# Altium integrated library Xilinx XC7000.IntLib: 173 symbols (part 4 of 9)
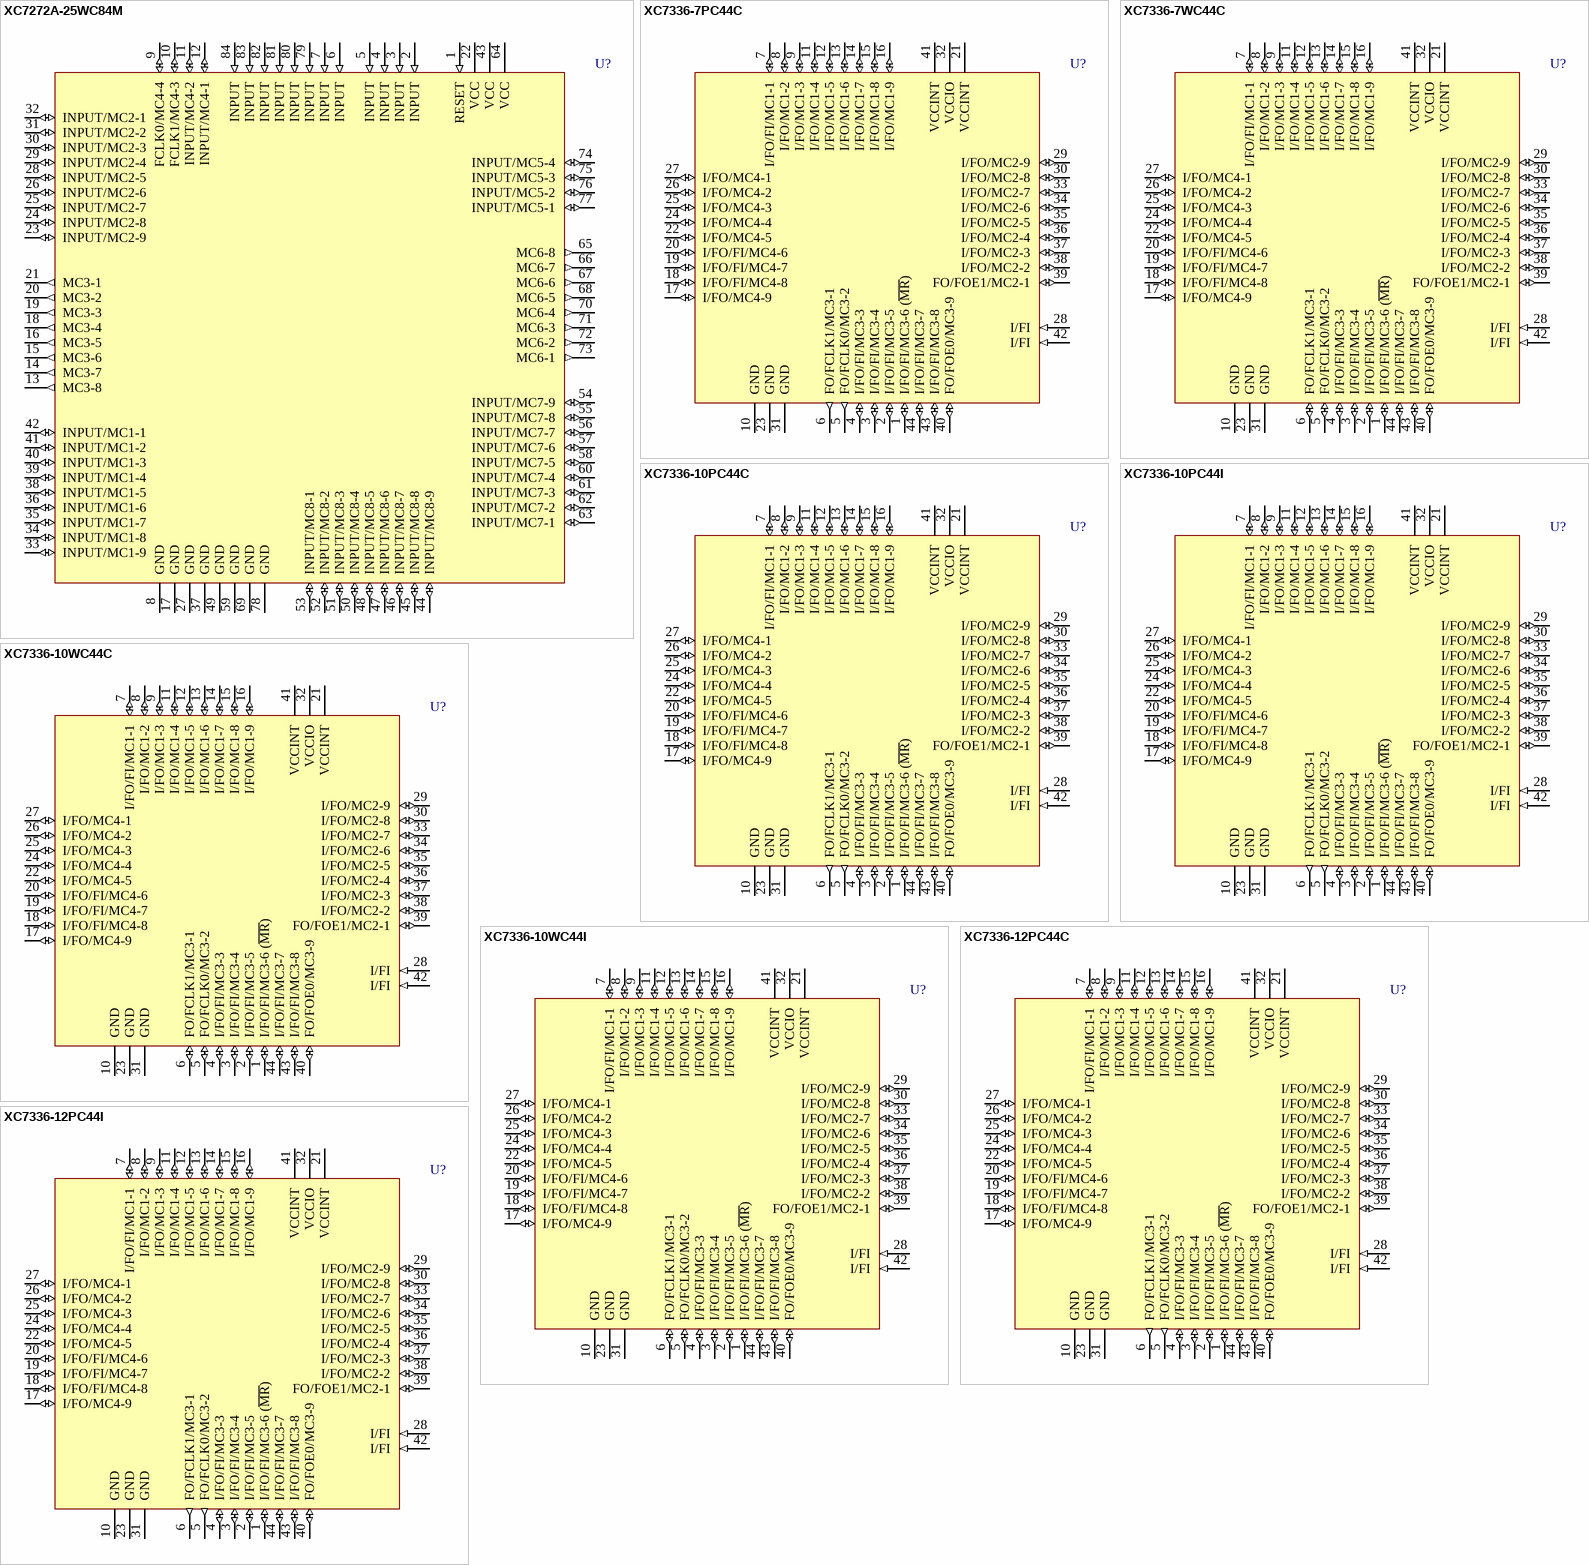
[diagram p50: symbols XC7272A-25WC84M to XC7336-12PC44I]

## XC7336-7WC44C
designator U?
36 Macrocell CMOS EPLD, with 34 I/O Pins, 44-Pin LCC, Commercial Grade; Published: 8-Jun-2000; LatestRevisionDate: 13-Apr-2006; LatestRevisionNote: IPC-7351 Footprint Added.; DatasheetVersion: 1994; PackageVersion: 1994; PackageReference: WC44; Publisher: Altium Limited; PackageDescription: 44-Pin Window Ceramic Leaded Chip Carrier (WC44); Code_IPC: PLCC-44; ComponentLink1Description: Manufacturer Link; ComponentLink1URL: http://www.xilinx.com/; ComponentLink2Description: Discontinuation Notice; ComponentLink2URL: http://direct.xilinx.com/bvdocs/notifications/pdn97008a.pdf
footprint WC44_N (Leaded Chip Carrier, 44-Leads, Body 16.4x16.4mm, Pitch 1.27mm, IPC Medium Density)
footprint WC44_L (Leaded Chip Carrier, 44-Leads, Body 16.4x16.4mm, Pitch 1.27mm, IPC High Density)
footprint WC44_M (Leaded Chip Carrier, 44-Leads, Body 16.4x16.4mm, Pitch 1.27mm, IPC Low Density)
3D model XC7336-WC44 (44-Pin Window Ceramic Leaded Chip Carrier (WC44))
pins: 1 I/FO/FI/MC3-6 (~{MR}) (io), 2 I/FO/FI/MC3-5 (io), 3 I/FO/FI/MC3-4 (io), 4 I/FO/FI/MC3-3 (io), 5 FO/FCLK0/MC3-2 (io), 6 FO/FCLK1/MC3-1 (io), 7 I/FO/FI/MC1-1 (io), 8 I/FO/MC1-2 (io), 9 I/FO/MC1-3 (io), 10 GND (power), 11 I/FO/MC1-4 (io), 12 I/FO/MC1-5 (io), 13 I/FO/MC1-6 (io), 14 I/FO/MC1-7 (io), 15 I/FO/MC1-8 (io), 16 I/FO/MC1-9 (io), 17 I/FO/MC4-9 (io), 18 I/FO/FI/MC4-8 (io), 19 I/FO/FI/MC4-7 (io), 20 I/FO/FI/MC4-6 (io), 21 VCCINT (power), 22 I/FO/MC4-5 (io), 23 GND (power), 24 I/FO/MC4-4 (io), 25 I/FO/MC4-3 (io), 26 I/FO/MC4-2 (io), 27 I/FO/MC4-1 (io), 28 I/FI (in), 29 I/FO/MC2-9 (io), 30 I/FO/MC2-8 (io), 31 GND (power), 32 VCCIO (power), 33 I/FO/MC2-7 (io), 34 I/FO/MC2-6 (io), 35 I/FO/MC2-5 (io), 36 I/FO/MC2-4 (io), 37 I/FO/MC2-3 (io), 38 I/FO/MC2-2 (io), 39 FO/FOE1/MC2-1 (io), 40 FO/FOE0/MC3-9 (io), 41 VCCINT (power), 42 I/FI (in), 43 I/FO/FI/MC3-8 (io), 44 I/FO/FI/MC3-7 (io)

## XC7336-10PC44C
designator U?
36 Macrocell CMOS EPLD, with 27 I/O Pins, 44-Pin PLCC, Commercial Grade; Published: 8-Jun-2000; LatestRevisionDate: 13-Apr-2006; LatestRevisionNote: IPC-7351 Footprint Added.; DatasheetVersion: 1994; PackageVersion: ver1.2, Jun-2004; PackageReference: PC44; Publisher: Altium Limited; PackageDescription: 44-Pin Plastic Leaded Chip Carrier (PC44); Code_JEDEC: MS-047; Code_IPC: PLCC-44; ComponentLink1Description: Manufacturer Link; ComponentLink1URL: http://www.xilinx.com/; ComponentLink2Description: Discontinuation Notice; ComponentLink2URL: http://direct.xilinx.com/bvdocs/notifications/pdn97008a.pdf
footprint PC44_N (Leaded Chip Carrier, 44-Leads, Body 16.6x16.6mm, Pitch 1.27mm, IPC Medium Density)
footprint PC44_L (Leaded Chip Carrier, 44-Leads, Body 16.6x16.6mm, Pitch 1.27mm, IPC High Density)
footprint PC44_M (Leaded Chip Carrier, 44-Leads, Body 16.6x16.6mm, Pitch 1.27mm, IPC Low Density)
3D model XC7336-PC44 (44-Pin Plastic Leaded Chip Carrier (PC44))
pins: 1 I/FO/FI/MC3-6 (~{MR}) (io), 2 I/FO/FI/MC3-5 (io), 3 I/FO/FI/MC3-4 (io), 4 I/FO/FI/MC3-3 (io), 5 FO/FCLK0/MC3-2 (out), 6 FO/FCLK1/MC3-1 (out), 7 I/FO/FI/MC1-1 (io), 8 I/FO/MC1-2 (io), 9 I/FO/MC1-3 (io), 10 GND (power), 11 I/FO/MC1-4 (io), 12 I/FO/MC1-5 (io), 13 I/FO/MC1-6 (io), 14 I/FO/MC1-7 (io), 15 I/FO/MC1-8 (io), 16 I/FO/MC1-9 (io), 17 I/FO/MC4-9 (io), 18 I/FO/FI/MC4-8 (io), 19 I/FO/FI/MC4-7 (io), 20 I/FO/FI/MC4-6 (io), 21 VCCINT (power), 22 I/FO/MC4-5 (io), 23 GND (power), 24 I/FO/MC4-4 (io), 25 I/FO/MC4-3 (io), 26 I/FO/MC4-2 (io), 27 I/FO/MC4-1 (io), 28 I/FI (in), 29 I/FO/MC2-9 (io), 30 I/FO/MC2-8 (io), 31 GND (power), 32 VCCIO (power), 33 I/FO/MC2-7 (io), 34 I/FO/MC2-6 (io), 35 I/FO/MC2-5 (io), 36 I/FO/MC2-4 (io), 37 I/FO/MC2-3 (io), 38 I/FO/MC2-2 (io), 39 FO/FOE1/MC2-1 (io), 40 FO/FOE0/MC3-9 (io), 41 VCCINT (power), 42 I/FI (in), 43 I/FO/FI/MC3-8 (io), 44 I/FO/FI/MC3-7 (io)

## XC7336-10PC44I
designator U?
36 Macrocell CMOS EPLD, with 27 I/O Pins, 44-Pin PLCC, Industrial Grade; Published: 8-Jun-2000; LatestRevisionDate: 13-Apr-2006; LatestRevisionNote: IPC-7351 Footprint Added.; DatasheetVersion: 1994; PackageVersion: ver1.2, Jun-2004; PackageReference: PC44; Publisher: Altium Limited; PackageDescription: 44-Pin Plastic Leaded Chip Carrier (PC44); Code_JEDEC: MS-047; Code_IPC: PLCC-44; ComponentLink1Description: Manufacturer Link; ComponentLink1URL: http://www.xilinx.com/; ComponentLink2Description: Discontinuation Notice; ComponentLink2URL: http://direct.xilinx.com/bvdocs/notifications/pdn97008a.pdf
footprint PC44_N (Leaded Chip Carrier, 44-Leads, Body 16.6x16.6mm, Pitch 1.27mm, IPC Medium Density)
footprint PC44_L (Leaded Chip Carrier, 44-Leads, Body 16.6x16.6mm, Pitch 1.27mm, IPC High Density)
footprint PC44_M (Leaded Chip Carrier, 44-Leads, Body 16.6x16.6mm, Pitch 1.27mm, IPC Low Density)
3D model XC7336-PC44 (44-Pin Plastic Leaded Chip Carrier (PC44))
pins: 1 I/FO/FI/MC3-6 (~{MR}) (io), 2 I/FO/FI/MC3-5 (io), 3 I/FO/FI/MC3-4 (io), 4 I/FO/FI/MC3-3 (io), 5 FO/FCLK0/MC3-2 (out), 6 FO/FCLK1/MC3-1 (out), 7 I/FO/FI/MC1-1 (io), 8 I/FO/MC1-2 (io), 9 I/FO/MC1-3 (io), 10 GND (power), 11 I/FO/MC1-4 (io), 12 I/FO/MC1-5 (io), 13 I/FO/MC1-6 (io), 14 I/FO/MC1-7 (io), 15 I/FO/MC1-8 (io), 16 I/FO/MC1-9 (io), 17 I/FO/MC4-9 (io), 18 I/FO/FI/MC4-8 (io), 19 I/FO/FI/MC4-7 (io), 20 I/FO/FI/MC4-6 (io), 21 VCCINT (power), 22 I/FO/MC4-5 (io), 23 GND (power), 24 I/FO/MC4-4 (io), 25 I/FO/MC4-3 (io), 26 I/FO/MC4-2 (io), 27 I/FO/MC4-1 (io), 28 I/FI (in), 29 I/FO/MC2-9 (io), 30 I/FO/MC2-8 (io), 31 GND (power), 32 VCCIO (power), 33 I/FO/MC2-7 (io), 34 I/FO/MC2-6 (io), 35 I/FO/MC2-5 (io), 36 I/FO/MC2-4 (io), 37 I/FO/MC2-3 (io), 38 I/FO/MC2-2 (io), 39 FO/FOE1/MC2-1 (io), 40 FO/FOE0/MC3-9 (io), 41 VCCINT (power), 42 I/FI (in), 43 I/FO/FI/MC3-8 (io), 44 I/FO/FI/MC3-7 (io)

## XC7336-10WC44C
designator U?
36 Macrocell CMOS EPLD, with 34 I/O Pins, 44-Pin LCC, Commercial Grade; Published: 8-Jun-2000; LatestRevisionDate: 13-Apr-2006; LatestRevisionNote: IPC-7351 Footprint Added.; DatasheetVersion: 1994; PackageVersion: 1994; PackageReference: WC44; Publisher: Altium Limited; PackageDescription: 44-Pin Window Ceramic Leaded Chip Carrier (WC44); Code_IPC: PLCC-44; ComponentLink1Description: Manufacturer Link; ComponentLink1URL: http://www.xilinx.com/; ComponentLink2Description: Discontinuation Notice; ComponentLink2URL: http://direct.xilinx.com/bvdocs/notifications/pdn97008a.pdf
footprint WC44_N (Leaded Chip Carrier, 44-Leads, Body 16.4x16.4mm, Pitch 1.27mm, IPC Medium Density)
footprint WC44_L (Leaded Chip Carrier, 44-Leads, Body 16.4x16.4mm, Pitch 1.27mm, IPC High Density)
footprint WC44_M (Leaded Chip Carrier, 44-Leads, Body 16.4x16.4mm, Pitch 1.27mm, IPC Low Density)
3D model XC7336-WC44 (44-Pin Window Ceramic Leaded Chip Carrier (WC44))
pins: 1 I/FO/FI/MC3-6 (~{MR}) (io), 2 I/FO/FI/MC3-5 (io), 3 I/FO/FI/MC3-4 (io), 4 I/FO/FI/MC3-3 (io), 5 FO/FCLK0/MC3-2 (io), 6 FO/FCLK1/MC3-1 (io), 7 I/FO/FI/MC1-1 (io), 8 I/FO/MC1-2 (io), 9 I/FO/MC1-3 (io), 10 GND (power), 11 I/FO/MC1-4 (io), 12 I/FO/MC1-5 (io), 13 I/FO/MC1-6 (io), 14 I/FO/MC1-7 (io), 15 I/FO/MC1-8 (io), 16 I/FO/MC1-9 (io), 17 I/FO/MC4-9 (io), 18 I/FO/FI/MC4-8 (io), 19 I/FO/FI/MC4-7 (io), 20 I/FO/FI/MC4-6 (io), 21 VCCINT (power), 22 I/FO/MC4-5 (io), 23 GND (power), 24 I/FO/MC4-4 (io), 25 I/FO/MC4-3 (io), 26 I/FO/MC4-2 (io), 27 I/FO/MC4-1 (io), 28 I/FI (in), 29 I/FO/MC2-9 (io), 30 I/FO/MC2-8 (io), 31 GND (power), 32 VCCIO (power), 33 I/FO/MC2-7 (io), 34 I/FO/MC2-6 (io), 35 I/FO/MC2-5 (io), 36 I/FO/MC2-4 (io), 37 I/FO/MC2-3 (io), 38 I/FO/MC2-2 (io), 39 FO/FOE1/MC2-1 (io), 40 FO/FOE0/MC3-9 (io), 41 VCCINT (power), 42 I/FI (in), 43 I/FO/FI/MC3-8 (io), 44 I/FO/FI/MC3-7 (io)

## XC7336-10WC44I
designator U?
36 Macrocell CMOS EPLD, with 34 I/O Pins, 44-Pin LCC, Industrial Grade; Published: 8-Jun-2000; LatestRevisionDate: 13-Apr-2006; LatestRevisionNote: IPC-7351 Footprint Added.; DatasheetVersion: 1994; PackageVersion: 1994; PackageReference: WC44; Publisher: Altium Limited; PackageDescription: 44-Pin Window Ceramic Leaded Chip Carrier (WC44); Code_IPC: PLCC-44; ComponentLink1Description: Manufacturer Link; ComponentLink1URL: http://www.xilinx.com/; ComponentLink2Description: Discontinuation Notice; ComponentLink2URL: http://direct.xilinx.com/bvdocs/notifications/pdn97008a.pdf
footprint WC44_N (Leaded Chip Carrier, 44-Leads, Body 16.4x16.4mm, Pitch 1.27mm, IPC Medium Density)
footprint WC44_L (Leaded Chip Carrier, 44-Leads, Body 16.4x16.4mm, Pitch 1.27mm, IPC High Density)
footprint WC44_M (Leaded Chip Carrier, 44-Leads, Body 16.4x16.4mm, Pitch 1.27mm, IPC Low Density)
3D model XC7336-WC44 (44-Pin Window Ceramic Leaded Chip Carrier (WC44))
pins: 1 I/FO/FI/MC3-6 (~{MR}) (io), 2 I/FO/FI/MC3-5 (io), 3 I/FO/FI/MC3-4 (io), 4 I/FO/FI/MC3-3 (io), 5 FO/FCLK0/MC3-2 (io), 6 FO/FCLK1/MC3-1 (io), 7 I/FO/FI/MC1-1 (io), 8 I/FO/MC1-2 (io), 9 I/FO/MC1-3 (io), 10 GND (power), 11 I/FO/MC1-4 (io), 12 I/FO/MC1-5 (io), 13 I/FO/MC1-6 (io), 14 I/FO/MC1-7 (io), 15 I/FO/MC1-8 (io), 16 I/FO/MC1-9 (io), 17 I/FO/MC4-9 (io), 18 I/FO/FI/MC4-8 (io), 19 I/FO/FI/MC4-7 (io), 20 I/FO/FI/MC4-6 (io), 21 VCCINT (power), 22 I/FO/MC4-5 (io), 23 GND (power), 24 I/FO/MC4-4 (io), 25 I/FO/MC4-3 (io), 26 I/FO/MC4-2 (io), 27 I/FO/MC4-1 (io), 28 I/FI (in), 29 I/FO/MC2-9 (io), 30 I/FO/MC2-8 (io), 31 GND (power), 32 VCCIO (power), 33 I/FO/MC2-7 (io), 34 I/FO/MC2-6 (io), 35 I/FO/MC2-5 (io), 36 I/FO/MC2-4 (io), 37 I/FO/MC2-3 (io), 38 I/FO/MC2-2 (io), 39 FO/FOE1/MC2-1 (io), 40 FO/FOE0/MC3-9 (io), 41 VCCINT (power), 42 I/FI (in), 43 I/FO/FI/MC3-8 (io), 44 I/FO/FI/MC3-7 (io)

## XC7336-12PC44C
designator U?
36 Macrocell CMOS EPLD, with 27 I/O Pins, 44-Pin PLCC, Commercial Grade; Published: 8-Jun-2000; LatestRevisionDate: 13-Apr-2006; LatestRevisionNote: IPC-7351 Footprint Added.; DatasheetVersion: 1994; PackageVersion: ver1.2, Jun-2004; PackageReference: PC44; Publisher: Altium Limited; PackageDescription: 44-Pin Plastic Leaded Chip Carrier (PC44); Code_JEDEC: MS-047; Code_IPC: PLCC-44; ComponentLink1Description: Manufacturer Link; ComponentLink1URL: http://www.xilinx.com/; ComponentLink2Description: Discontinuation Notice; ComponentLink2URL: http://direct.xilinx.com/bvdocs/notifications/pdn97008a.pdf
footprint PC44_N (Leaded Chip Carrier, 44-Leads, Body 16.6x16.6mm, Pitch 1.27mm, IPC Medium Density)
footprint PC44_L (Leaded Chip Carrier, 44-Leads, Body 16.6x16.6mm, Pitch 1.27mm, IPC High Density)
footprint PC44_M (Leaded Chip Carrier, 44-Leads, Body 16.6x16.6mm, Pitch 1.27mm, IPC Low Density)
3D model XC7336-PC44 (44-Pin Plastic Leaded Chip Carrier (PC44))
pins: 1 I/FO/FI/MC3-6 (~{MR}) (io), 2 I/FO/FI/MC3-5 (io), 3 I/FO/FI/MC3-4 (io), 4 I/FO/FI/MC3-3 (io), 5 FO/FCLK0/MC3-2 (out), 6 FO/FCLK1/MC3-1 (out), 7 I/FO/FI/MC1-1 (io), 8 I/FO/MC1-2 (io), 9 I/FO/MC1-3 (io), 10 GND (power), 11 I/FO/MC1-4 (io), 12 I/FO/MC1-5 (io), 13 I/FO/MC1-6 (io), 14 I/FO/MC1-7 (io), 15 I/FO/MC1-8 (io), 16 I/FO/MC1-9 (io), 17 I/FO/MC4-9 (io), 18 I/FO/FI/MC4-8 (io), 19 I/FO/FI/MC4-7 (io), 20 I/FO/FI/MC4-6 (io), 21 VCCINT (power), 22 I/FO/MC4-5 (io), 23 GND (power), 24 I/FO/MC4-4 (io), 25 I/FO/MC4-3 (io), 26 I/FO/MC4-2 (io), 27 I/FO/MC4-1 (io), 28 I/FI (in), 29 I/FO/MC2-9 (io), 30 I/FO/MC2-8 (io), 31 GND (power), 32 VCCIO (power), 33 I/FO/MC2-7 (io), 34 I/FO/MC2-6 (io), 35 I/FO/MC2-5 (io), 36 I/FO/MC2-4 (io), 37 I/FO/MC2-3 (io), 38 I/FO/MC2-2 (io), 39 FO/FOE1/MC2-1 (io), 40 FO/FOE0/MC3-9 (io), 41 VCCINT (power), 42 I/FI (in), 43 I/FO/FI/MC3-8 (io), 44 I/FO/FI/MC3-7 (io)

## XC7336-12PC44I
designator U?
36 Macrocell CMOS EPLD, with 27 I/O Pins, 44-Pin PLCC, Industrial Grade; Published: 8-Jun-2000; LatestRevisionDate: 13-Apr-2006; LatestRevisionNote: IPC-7351 Footprint Added.; DatasheetVersion: 1994; PackageVersion: ver1.2, Jun-2004; PackageReference: PC44; Publisher: Altium Limited; PackageDescription: 44-Pin Plastic Leaded Chip Carrier (PC44); Code_JEDEC: MS-047; Code_IPC: PLCC-44; ComponentLink1Description: Manufacturer Link; ComponentLink1URL: http://www.xilinx.com/; ComponentLink2Description: Discontinuation Notice; ComponentLink2URL: http://direct.xilinx.com/bvdocs/notifications/pdn97008a.pdf
footprint PC44_N (Leaded Chip Carrier, 44-Leads, Body 16.6x16.6mm, Pitch 1.27mm, IPC Medium Density)
footprint PC44_L (Leaded Chip Carrier, 44-Leads, Body 16.6x16.6mm, Pitch 1.27mm, IPC High Density)
footprint PC44_M (Leaded Chip Carrier, 44-Leads, Body 16.6x16.6mm, Pitch 1.27mm, IPC Low Density)
3D model XC7336-PC44 (44-Pin Plastic Leaded Chip Carrier (PC44))
pins: 1 I/FO/FI/MC3-6 (~{MR}) (io), 2 I/FO/FI/MC3-5 (io), 3 I/FO/FI/MC3-4 (io), 4 I/FO/FI/MC3-3 (io), 5 FO/FCLK0/MC3-2 (out), 6 FO/FCLK1/MC3-1 (out), 7 I/FO/FI/MC1-1 (io), 8 I/FO/MC1-2 (io), 9 I/FO/MC1-3 (io), 10 GND (power), 11 I/FO/MC1-4 (io), 12 I/FO/MC1-5 (io), 13 I/FO/MC1-6 (io), 14 I/FO/MC1-7 (io), 15 I/FO/MC1-8 (io), 16 I/FO/MC1-9 (io), 17 I/FO/MC4-9 (io), 18 I/FO/FI/MC4-8 (io), 19 I/FO/FI/MC4-7 (io), 20 I/FO/FI/MC4-6 (io), 21 VCCINT (power), 22 I/FO/MC4-5 (io), 23 GND (power), 24 I/FO/MC4-4 (io), 25 I/FO/MC4-3 (io), 26 I/FO/MC4-2 (io), 27 I/FO/MC4-1 (io), 28 I/FI (in), 29 I/FO/MC2-9 (io), 30 I/FO/MC2-8 (io), 31 GND (power), 32 VCCIO (power), 33 I/FO/MC2-7 (io), 34 I/FO/MC2-6 (io), 35 I/FO/MC2-5 (io), 36 I/FO/MC2-4 (io), 37 I/FO/MC2-3 (io), 38 I/FO/MC2-2 (io), 39 FO/FOE1/MC2-1 (io), 40 FO/FOE0/MC3-9 (io), 41 VCCINT (power), 42 I/FI (in), 43 I/FO/FI/MC3-8 (io), 44 I/FO/FI/MC3-7 (io)

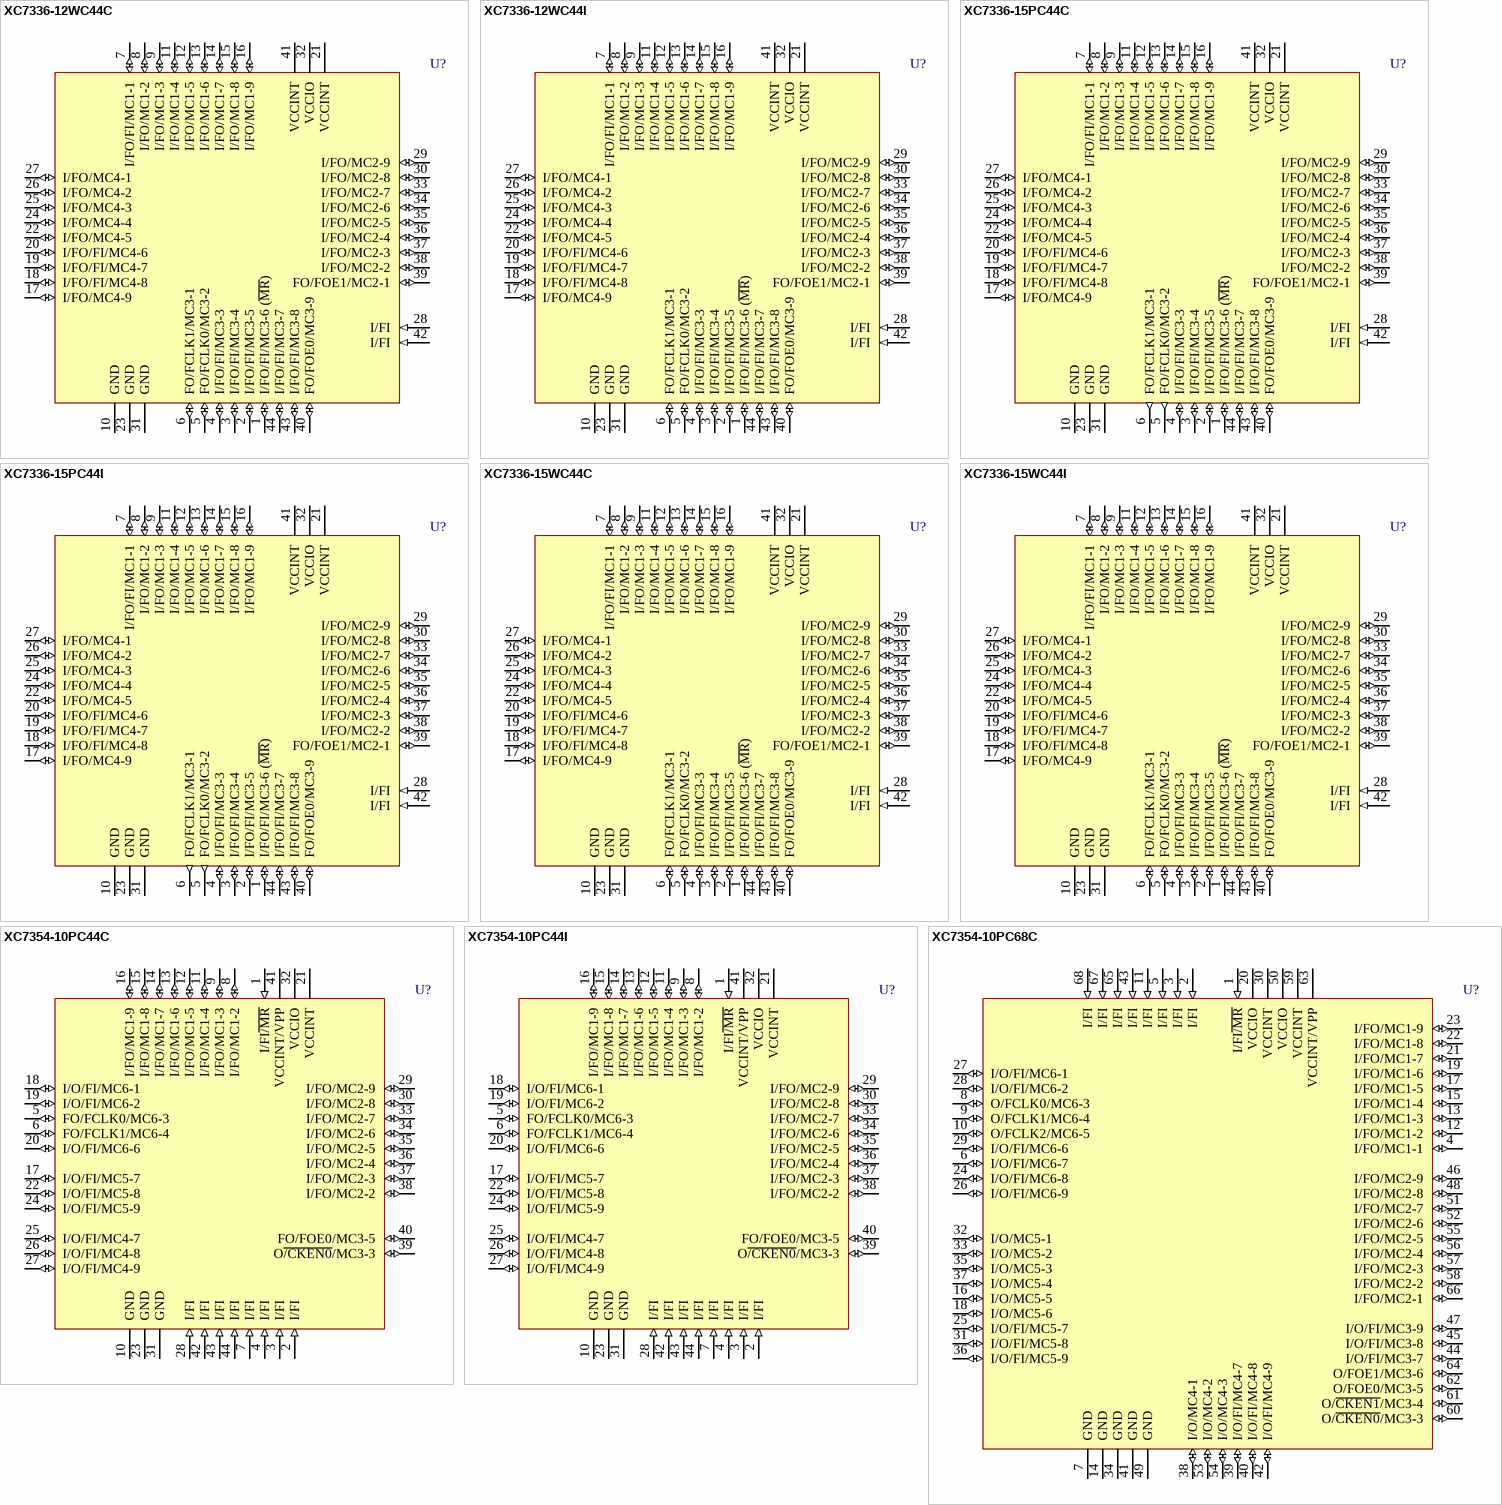
[diagram p15: symbols XC7336-12WC44C to XC7354-10PC68C]

## XC7336-12WC44C
designator U?
36 Macrocell CMOS EPLD, with 34 I/O Pins, 44-Pin LCC, Commercial Grade; Published: 8-Jun-2000; LatestRevisionDate: 13-Apr-2006; LatestRevisionNote: IPC-7351 Footprint Added.; DatasheetVersion: 1994; PackageVersion: 1994; PackageReference: WC44; Publisher: Altium Limited; PackageDescription: 44-Pin Window Ceramic Leaded Chip Carrier (WC44); Code_IPC: PLCC-44; ComponentLink1Description: Manufacturer Link; ComponentLink1URL: http://www.xilinx.com/; ComponentLink2Description: Discontinuation Notice; ComponentLink2URL: http://direct.xilinx.com/bvdocs/notifications/pdn97008a.pdf
footprint WC44_N (Leaded Chip Carrier, 44-Leads, Body 16.4x16.4mm, Pitch 1.27mm, IPC Medium Density)
footprint WC44_L (Leaded Chip Carrier, 44-Leads, Body 16.4x16.4mm, Pitch 1.27mm, IPC High Density)
footprint WC44_M (Leaded Chip Carrier, 44-Leads, Body 16.4x16.4mm, Pitch 1.27mm, IPC Low Density)
3D model XC7336-WC44 (44-Pin Window Ceramic Leaded Chip Carrier (WC44))
pins: 1 I/FO/FI/MC3-6 (~{MR}) (io), 2 I/FO/FI/MC3-5 (io), 3 I/FO/FI/MC3-4 (io), 4 I/FO/FI/MC3-3 (io), 5 FO/FCLK0/MC3-2 (io), 6 FO/FCLK1/MC3-1 (io), 7 I/FO/FI/MC1-1 (io), 8 I/FO/MC1-2 (io), 9 I/FO/MC1-3 (io), 10 GND (power), 11 I/FO/MC1-4 (io), 12 I/FO/MC1-5 (io), 13 I/FO/MC1-6 (io), 14 I/FO/MC1-7 (io), 15 I/FO/MC1-8 (io), 16 I/FO/MC1-9 (io), 17 I/FO/MC4-9 (io), 18 I/FO/FI/MC4-8 (io), 19 I/FO/FI/MC4-7 (io), 20 I/FO/FI/MC4-6 (io), 21 VCCINT (power), 22 I/FO/MC4-5 (io), 23 GND (power), 24 I/FO/MC4-4 (io), 25 I/FO/MC4-3 (io), 26 I/FO/MC4-2 (io), 27 I/FO/MC4-1 (io), 28 I/FI (in), 29 I/FO/MC2-9 (io), 30 I/FO/MC2-8 (io), 31 GND (power), 32 VCCIO (power), 33 I/FO/MC2-7 (io), 34 I/FO/MC2-6 (io), 35 I/FO/MC2-5 (io), 36 I/FO/MC2-4 (io), 37 I/FO/MC2-3 (io), 38 I/FO/MC2-2 (io), 39 FO/FOE1/MC2-1 (io), 40 FO/FOE0/MC3-9 (io), 41 VCCINT (power), 42 I/FI (in), 43 I/FO/FI/MC3-8 (io), 44 I/FO/FI/MC3-7 (io)

## XC7336-12WC44I
designator U?
36 Macrocell CMOS EPLD, with 34 I/O Pins, 44-Pin LCC, Industrial Grade; Published: 8-Jun-2000; LatestRevisionDate: 13-Apr-2006; LatestRevisionNote: IPC-7351 Footprint Added.; DatasheetVersion: 1994; PackageVersion: 1994; PackageReference: WC44; Publisher: Altium Limited; PackageDescription: 44-Pin Window Ceramic Leaded Chip Carrier (WC44); Code_IPC: PLCC-44; ComponentLink1Description: Manufacturer Link; ComponentLink1URL: http://www.xilinx.com/; ComponentLink2Description: Discontinuation Notice; ComponentLink2URL: http://direct.xilinx.com/bvdocs/notifications/pdn97008a.pdf
footprint WC44_N (Leaded Chip Carrier, 44-Leads, Body 16.4x16.4mm, Pitch 1.27mm, IPC Medium Density)
footprint WC44_L (Leaded Chip Carrier, 44-Leads, Body 16.4x16.4mm, Pitch 1.27mm, IPC High Density)
footprint WC44_M (Leaded Chip Carrier, 44-Leads, Body 16.4x16.4mm, Pitch 1.27mm, IPC Low Density)
3D model XC7336-WC44 (44-Pin Window Ceramic Leaded Chip Carrier (WC44))
pins: 1 I/FO/FI/MC3-6 (~{MR}) (io), 2 I/FO/FI/MC3-5 (io), 3 I/FO/FI/MC3-4 (io), 4 I/FO/FI/MC3-3 (io), 5 FO/FCLK0/MC3-2 (io), 6 FO/FCLK1/MC3-1 (io), 7 I/FO/FI/MC1-1 (io), 8 I/FO/MC1-2 (io), 9 I/FO/MC1-3 (io), 10 GND (power), 11 I/FO/MC1-4 (io), 12 I/FO/MC1-5 (io), 13 I/FO/MC1-6 (io), 14 I/FO/MC1-7 (io), 15 I/FO/MC1-8 (io), 16 I/FO/MC1-9 (io), 17 I/FO/MC4-9 (io), 18 I/FO/FI/MC4-8 (io), 19 I/FO/FI/MC4-7 (io), 20 I/FO/FI/MC4-6 (io), 21 VCCINT (power), 22 I/FO/MC4-5 (io), 23 GND (power), 24 I/FO/MC4-4 (io), 25 I/FO/MC4-3 (io), 26 I/FO/MC4-2 (io), 27 I/FO/MC4-1 (io), 28 I/FI (in), 29 I/FO/MC2-9 (io), 30 I/FO/MC2-8 (io), 31 GND (power), 32 VCCIO (power), 33 I/FO/MC2-7 (io), 34 I/FO/MC2-6 (io), 35 I/FO/MC2-5 (io), 36 I/FO/MC2-4 (io), 37 I/FO/MC2-3 (io), 38 I/FO/MC2-2 (io), 39 FO/FOE1/MC2-1 (io), 40 FO/FOE0/MC3-9 (io), 41 VCCINT (power), 42 I/FI (in), 43 I/FO/FI/MC3-8 (io), 44 I/FO/FI/MC3-7 (io)

## XC7336-15PC44C
designator U?
36 Macrocell CMOS EPLD, with 27 I/O Pins, 44-Pin PLCC, Commercial Grade; Published: 8-Jun-2000; LatestRevisionDate: 13-Apr-2006; LatestRevisionNote: IPC-7351 Footprint Added.; DatasheetVersion: 1994; PackageVersion: ver1.2, Jun-2004; PackageReference: PC44; Publisher: Altium Limited; PackageDescription: 44-Pin Plastic Leaded Chip Carrier (PC44); Code_JEDEC: MS-047; Code_IPC: PLCC-44; ComponentLink1Description: Manufacturer Link; ComponentLink1URL: http://www.xilinx.com/; ComponentLink2Description: Discontinuation Notice; ComponentLink2URL: http://direct.xilinx.com/bvdocs/notifications/pdn97008a.pdf
footprint PC44_N (Leaded Chip Carrier, 44-Leads, Body 16.6x16.6mm, Pitch 1.27mm, IPC Medium Density)
footprint PC44_L (Leaded Chip Carrier, 44-Leads, Body 16.6x16.6mm, Pitch 1.27mm, IPC High Density)
footprint PC44_M (Leaded Chip Carrier, 44-Leads, Body 16.6x16.6mm, Pitch 1.27mm, IPC Low Density)
3D model XC7336-PC44 (44-Pin Plastic Leaded Chip Carrier (PC44))
pins: 1 I/FO/FI/MC3-6 (~{MR}) (io), 2 I/FO/FI/MC3-5 (io), 3 I/FO/FI/MC3-4 (io), 4 I/FO/FI/MC3-3 (io), 5 FO/FCLK0/MC3-2 (out), 6 FO/FCLK1/MC3-1 (out), 7 I/FO/FI/MC1-1 (io), 8 I/FO/MC1-2 (io), 9 I/FO/MC1-3 (io), 10 GND (power), 11 I/FO/MC1-4 (io), 12 I/FO/MC1-5 (io), 13 I/FO/MC1-6 (io), 14 I/FO/MC1-7 (io), 15 I/FO/MC1-8 (io), 16 I/FO/MC1-9 (io), 17 I/FO/MC4-9 (io), 18 I/FO/FI/MC4-8 (io), 19 I/FO/FI/MC4-7 (io), 20 I/FO/FI/MC4-6 (io), 21 VCCINT (power), 22 I/FO/MC4-5 (io), 23 GND (power), 24 I/FO/MC4-4 (io), 25 I/FO/MC4-3 (io), 26 I/FO/MC4-2 (io), 27 I/FO/MC4-1 (io), 28 I/FI (in), 29 I/FO/MC2-9 (io), 30 I/FO/MC2-8 (io), 31 GND (power), 32 VCCIO (power), 33 I/FO/MC2-7 (io), 34 I/FO/MC2-6 (io), 35 I/FO/MC2-5 (io), 36 I/FO/MC2-4 (io), 37 I/FO/MC2-3 (io), 38 I/FO/MC2-2 (io), 39 FO/FOE1/MC2-1 (io), 40 FO/FOE0/MC3-9 (io), 41 VCCINT (power), 42 I/FI (in), 43 I/FO/FI/MC3-8 (io), 44 I/FO/FI/MC3-7 (io)

## XC7336-15PC44I
designator U?
36 Macrocell CMOS EPLD, with 27 I/O Pins, 44-Pin PLCC, Industrial Grade; Published: 8-Jun-2000; LatestRevisionDate: 13-Apr-2006; LatestRevisionNote: IPC-7351 Footprint Added.; DatasheetVersion: 1994; PackageVersion: ver1.2, Jun-2004; PackageReference: PC44; Publisher: Altium Limited; PackageDescription: 44-Pin Plastic Leaded Chip Carrier (PC44); Code_JEDEC: MS-047; Code_IPC: PLCC-44; ComponentLink1Description: Manufacturer Link; ComponentLink1URL: http://www.xilinx.com/; ComponentLink2Description: Discontinuation Notice; ComponentLink2URL: http://direct.xilinx.com/bvdocs/notifications/pdn97008a.pdf
footprint PC44_N (Leaded Chip Carrier, 44-Leads, Body 16.6x16.6mm, Pitch 1.27mm, IPC Medium Density)
footprint PC44_L (Leaded Chip Carrier, 44-Leads, Body 16.6x16.6mm, Pitch 1.27mm, IPC High Density)
footprint PC44_M (Leaded Chip Carrier, 44-Leads, Body 16.6x16.6mm, Pitch 1.27mm, IPC Low Density)
3D model XC7336-PC44 (44-Pin Plastic Leaded Chip Carrier (PC44))
pins: 1 I/FO/FI/MC3-6 (~{MR}) (io), 2 I/FO/FI/MC3-5 (io), 3 I/FO/FI/MC3-4 (io), 4 I/FO/FI/MC3-3 (io), 5 FO/FCLK0/MC3-2 (out), 6 FO/FCLK1/MC3-1 (out), 7 I/FO/FI/MC1-1 (io), 8 I/FO/MC1-2 (io), 9 I/FO/MC1-3 (io), 10 GND (power), 11 I/FO/MC1-4 (io), 12 I/FO/MC1-5 (io), 13 I/FO/MC1-6 (io), 14 I/FO/MC1-7 (io), 15 I/FO/MC1-8 (io), 16 I/FO/MC1-9 (io), 17 I/FO/MC4-9 (io), 18 I/FO/FI/MC4-8 (io), 19 I/FO/FI/MC4-7 (io), 20 I/FO/FI/MC4-6 (io), 21 VCCINT (power), 22 I/FO/MC4-5 (io), 23 GND (power), 24 I/FO/MC4-4 (io), 25 I/FO/MC4-3 (io), 26 I/FO/MC4-2 (io), 27 I/FO/MC4-1 (io), 28 I/FI (in), 29 I/FO/MC2-9 (io), 30 I/FO/MC2-8 (io), 31 GND (power), 32 VCCIO (power), 33 I/FO/MC2-7 (io), 34 I/FO/MC2-6 (io), 35 I/FO/MC2-5 (io), 36 I/FO/MC2-4 (io), 37 I/FO/MC2-3 (io), 38 I/FO/MC2-2 (io), 39 FO/FOE1/MC2-1 (io), 40 FO/FOE0/MC3-9 (io), 41 VCCINT (power), 42 I/FI (in), 43 I/FO/FI/MC3-8 (io), 44 I/FO/FI/MC3-7 (io)

## XC7336-15WC44C
designator U?
36 Macrocell CMOS EPLD, with 34 I/O Pins, 44-Pin LCC, Commercial Grade; Published: 8-Jun-2000; LatestRevisionDate: 13-Apr-2006; LatestRevisionNote: IPC-7351 Footprint Added.; DatasheetVersion: 1994; PackageVersion: 1994; PackageReference: WC44; Publisher: Altium Limited; PackageDescription: 44-Pin Window Ceramic Leaded Chip Carrier (WC44); Code_IPC: PLCC-44; ComponentLink1Description: Manufacturer Link; ComponentLink1URL: http://www.xilinx.com/; ComponentLink2Description: Discontinuation Notice; ComponentLink2URL: http://direct.xilinx.com/bvdocs/notifications/pdn97008a.pdf
footprint WC44_N (Leaded Chip Carrier, 44-Leads, Body 16.4x16.4mm, Pitch 1.27mm, IPC Medium Density)
footprint WC44_L (Leaded Chip Carrier, 44-Leads, Body 16.4x16.4mm, Pitch 1.27mm, IPC High Density)
footprint WC44_M (Leaded Chip Carrier, 44-Leads, Body 16.4x16.4mm, Pitch 1.27mm, IPC Low Density)
3D model XC7336-WC44 (44-Pin Window Ceramic Leaded Chip Carrier (WC44))
pins: 1 I/FO/FI/MC3-6 (~{MR}) (io), 2 I/FO/FI/MC3-5 (io), 3 I/FO/FI/MC3-4 (io), 4 I/FO/FI/MC3-3 (io), 5 FO/FCLK0/MC3-2 (io), 6 FO/FCLK1/MC3-1 (io), 7 I/FO/FI/MC1-1 (io), 8 I/FO/MC1-2 (io), 9 I/FO/MC1-3 (io), 10 GND (power), 11 I/FO/MC1-4 (io), 12 I/FO/MC1-5 (io), 13 I/FO/MC1-6 (io), 14 I/FO/MC1-7 (io), 15 I/FO/MC1-8 (io), 16 I/FO/MC1-9 (io), 17 I/FO/MC4-9 (io), 18 I/FO/FI/MC4-8 (io), 19 I/FO/FI/MC4-7 (io), 20 I/FO/FI/MC4-6 (io), 21 VCCINT (power), 22 I/FO/MC4-5 (io), 23 GND (power), 24 I/FO/MC4-4 (io), 25 I/FO/MC4-3 (io), 26 I/FO/MC4-2 (io), 27 I/FO/MC4-1 (io), 28 I/FI (in), 29 I/FO/MC2-9 (io), 30 I/FO/MC2-8 (io), 31 GND (power), 32 VCCIO (power), 33 I/FO/MC2-7 (io), 34 I/FO/MC2-6 (io), 35 I/FO/MC2-5 (io), 36 I/FO/MC2-4 (io), 37 I/FO/MC2-3 (io), 38 I/FO/MC2-2 (io), 39 FO/FOE1/MC2-1 (io), 40 FO/FOE0/MC3-9 (io), 41 VCCINT (power), 42 I/FI (in), 43 I/FO/FI/MC3-8 (io), 44 I/FO/FI/MC3-7 (io)

## XC7336-15WC44I
designator U?
36 Macrocell CMOS EPLD, with 34 I/O Pins, 44-Pin LCC, Industrial Grade; Published: 8-Jun-2000; LatestRevisionDate: 13-Apr-2006; LatestRevisionNote: IPC-7351 Footprint Added.; DatasheetVersion: 1994; PackageVersion: 1994; PackageReference: WC44; Publisher: Altium Limited; PackageDescription: 44-Pin Window Ceramic Leaded Chip Carrier (WC44); Code_IPC: PLCC-44; ComponentLink1Description: Manufacturer Link; ComponentLink1URL: http://www.xilinx.com/; ComponentLink2Description: Discontinuation Notice; ComponentLink2URL: http://direct.xilinx.com/bvdocs/notifications/pdn97008a.pdf
footprint WC44_N (Leaded Chip Carrier, 44-Leads, Body 16.4x16.4mm, Pitch 1.27mm, IPC Medium Density)
footprint WC44_L (Leaded Chip Carrier, 44-Leads, Body 16.4x16.4mm, Pitch 1.27mm, IPC High Density)
footprint WC44_M (Leaded Chip Carrier, 44-Leads, Body 16.4x16.4mm, Pitch 1.27mm, IPC Low Density)
3D model XC7336-WC44 (44-Pin Window Ceramic Leaded Chip Carrier (WC44))
pins: 1 I/FO/FI/MC3-6 (~{MR}) (io), 2 I/FO/FI/MC3-5 (io), 3 I/FO/FI/MC3-4 (io), 4 I/FO/FI/MC3-3 (io), 5 FO/FCLK0/MC3-2 (io), 6 FO/FCLK1/MC3-1 (io), 7 I/FO/FI/MC1-1 (io), 8 I/FO/MC1-2 (io), 9 I/FO/MC1-3 (io), 10 GND (power), 11 I/FO/MC1-4 (io), 12 I/FO/MC1-5 (io), 13 I/FO/MC1-6 (io), 14 I/FO/MC1-7 (io), 15 I/FO/MC1-8 (io), 16 I/FO/MC1-9 (io), 17 I/FO/MC4-9 (io), 18 I/FO/FI/MC4-8 (io), 19 I/FO/FI/MC4-7 (io), 20 I/FO/FI/MC4-6 (io), 21 VCCINT (power), 22 I/FO/MC4-5 (io), 23 GND (power), 24 I/FO/MC4-4 (io), 25 I/FO/MC4-3 (io), 26 I/FO/MC4-2 (io), 27 I/FO/MC4-1 (io), 28 I/FI (in), 29 I/FO/MC2-9 (io), 30 I/FO/MC2-8 (io), 31 GND (power), 32 VCCIO (power), 33 I/FO/MC2-7 (io), 34 I/FO/MC2-6 (io), 35 I/FO/MC2-5 (io), 36 I/FO/MC2-4 (io), 37 I/FO/MC2-3 (io), 38 I/FO/MC2-2 (io), 39 FO/FOE1/MC2-1 (io), 40 FO/FOE0/MC3-9 (io), 41 VCCINT (power), 42 I/FI (in), 43 I/FO/FI/MC3-8 (io), 44 I/FO/FI/MC3-7 (io)

## XC7354-10PC44C
designator U?
54 Macrocell CMOS EPLD, with 27 I/O Pins, 44-Pin PLCC, Commercial Grade; Published: 8-Jun-2000; LatestRevisionDate: 13-Apr-2006; LatestRevisionNote: IPC-7351 Footprint Added.; DatasheetVersion: 1994; PackageVersion: ver1.2, Jun-2004; PackageReference: PC44; Publisher: Altium Limited; PackageDescription: 44-Pin Plastic Leaded Chip Carrier (PC44); Code_JEDEC: MS-047; Code_IPC: PLCC-44; ComponentLink1Description: Manufacturer Link; ComponentLink1URL: http://www.xilinx.com/; ComponentLink2Description: Discontinuation Notice; ComponentLink2URL: http://direct.xilinx.com/bvdocs/notifications/pdn97008a.pdf
footprint PC44_N (Leaded Chip Carrier, 44-Leads, Body 16.6x16.6mm, Pitch 1.27mm, IPC Medium Density)
footprint PC44_L (Leaded Chip Carrier, 44-Leads, Body 16.6x16.6mm, Pitch 1.27mm, IPC High Density)
footprint PC44_M (Leaded Chip Carrier, 44-Leads, Body 16.6x16.6mm, Pitch 1.27mm, IPC Low Density)
3D model XC7354-PC44 (44-Pin Plastic Leaded Chip Carrier (PC44))
pins: 1 I/FI~{/MR} (in), 2 I/FI (in), 3 I/FI (in), 4 I/FI (in), 5 FO/FCLK0/MC6-3 (io), 6 FO/FCLK1/MC6-4 (io), 7 I/FI (in), 8 I/FO/MC1-2 (io), 9 I/FO/MC1-3 (io), 10 GND (power), 11 I/FO/MC1-4 (io), 12 I/FO/MC1-5 (io), 13 I/FO/MC1-6 (io), 14 I/FO/MC1-7 (io), 15 I/FO/MC1-8 (io), 16 I/FO/MC1-9 (io), 17 I/O/FI/MC5-7 (io), 18 I/O/FI/MC6-1 (io), 19 I/O/FI/MC6-2 (io), 20 I/O/FI/MC6-6 (io), 21 VCCINT (power), 22 I/O/FI/MC5-8 (io), 23 GND (power), 24 I/O/FI/MC5-9 (io), 25 I/O/FI/MC4-7 (io), 26 I/O/FI/MC4-8 (io), 27 I/O/FI/MC4-9 (io), 28 I/FI (in), 29 I/FO/MC2-9 (io), 30 I/FO/MC2-8 (io), 31 GND (power), 32 VCCIO (power), 33 I/FO/MC2-7 (io), 34 I/FO/MC2-6 (io), 35 I/FO/MC2-5 (io), 36 I/FO/MC2-4 (io), 37 I/FO/MC2-3 (io), 38 I/FO/MC2-2 (io), 39 O~{/CKEN0}/MC3-3 (io), 40 FO/FOE0/MC3-5 (io), 41 VCCINT/VPP (power), 42 I/FI (in), 43 I/FI (in), 44 I/FI (in)

## XC7354-10PC44I
designator U?
54 Macrocell CMOS EPLD, with 27 I/O Pins, 44-Pin PLCC, Industrial Grade; Published: 8-Jun-2000; LatestRevisionDate: 13-Apr-2006; LatestRevisionNote: IPC-7351 Footprint Added.; DatasheetVersion: 1994; PackageVersion: ver1.2, Jun-2004; PackageReference: PC44; Publisher: Altium Limited; PackageDescription: 44-Pin Plastic Leaded Chip Carrier (PC44); Code_JEDEC: MS-047; Code_IPC: PLCC-44; ComponentLink1Description: Manufacturer Link; ComponentLink1URL: http://www.xilinx.com/; ComponentLink2Description: Discontinuation Notice; ComponentLink2URL: http://direct.xilinx.com/bvdocs/notifications/pdn97008a.pdf
footprint PC44_N (Leaded Chip Carrier, 44-Leads, Body 16.6x16.6mm, Pitch 1.27mm, IPC Medium Density)
footprint PC44_L (Leaded Chip Carrier, 44-Leads, Body 16.6x16.6mm, Pitch 1.27mm, IPC High Density)
footprint PC44_M (Leaded Chip Carrier, 44-Leads, Body 16.6x16.6mm, Pitch 1.27mm, IPC Low Density)
3D model XC7354-PC44 (44-Pin Plastic Leaded Chip Carrier (PC44))
pins: 1 I/FI~{/MR} (in), 2 I/FI (in), 3 I/FI (in), 4 I/FI (in), 5 FO/FCLK0/MC6-3 (io), 6 FO/FCLK1/MC6-4 (io), 7 I/FI (in), 8 I/FO/MC1-2 (io), 9 I/FO/MC1-3 (io), 10 GND (power), 11 I/FO/MC1-4 (io), 12 I/FO/MC1-5 (io), 13 I/FO/MC1-6 (io), 14 I/FO/MC1-7 (io), 15 I/FO/MC1-8 (io), 16 I/FO/MC1-9 (io), 17 I/O/FI/MC5-7 (io), 18 I/O/FI/MC6-1 (io), 19 I/O/FI/MC6-2 (io), 20 I/O/FI/MC6-6 (io), 21 VCCINT (power), 22 I/O/FI/MC5-8 (io), 23 GND (power), 24 I/O/FI/MC5-9 (io), 25 I/O/FI/MC4-7 (io), 26 I/O/FI/MC4-8 (io), 27 I/O/FI/MC4-9 (io), 28 I/FI (in), 29 I/FO/MC2-9 (io), 30 I/FO/MC2-8 (io), 31 GND (power), 32 VCCIO (power), 33 I/FO/MC2-7 (io), 34 I/FO/MC2-6 (io), 35 I/FO/MC2-5 (io), 36 I/FO/MC2-4 (io), 37 I/FO/MC2-3 (io), 38 I/FO/MC2-2 (io), 39 O~{/CKEN0}/MC3-3 (io), 40 FO/FOE0/MC3-5 (io), 41 VCCINT/VPP (power), 42 I/FI (in), 43 I/FI (in), 44 I/FI (in)

## XC7354-10PC68C
designator U?
54 Macrocell CMOS EPLD, with 23 I/O Pins, 68-Pin PLCC, Commercial Grade; Published: 8-Jun-2000; LatestRevisionDate: 13-Apr-2006; LatestRevisionNote: IPC-7351 Footprint Added.; DatasheetVersion: 1994; PackageVersion: ver1.2, Jun-2004; PackageReference: PC68; Publisher: Altium Limited; PackageDescription: 68-Pin Plastic Leaded Chip Carrier (PC68); Code_JEDEC: MO-047; Code_IPC: PLCC-68; ComponentLink1Description: Manufacturer Link; ComponentLink1URL: http://www.xilinx.com/; ComponentLink2Description: Discontinuation Notice; ComponentLink2URL: http://direct.xilinx.com/bvdocs/notifications/pdn97008a.pdf
footprint PC68_N (Leaded Chip Carrier, 68-Leads, Body 24x24mm, Pitch 1.27mm, IPC Medium Density)
footprint PC68_L (Leaded Chip Carrier, 68-Leads, Body 24x24mm, Pitch 1.27mm, IPC High Density)
footprint PC68_M (Leaded Chip Carrier, 68-Leads, Body 24x24mm, Pitch 1.27mm, IPC Low Density)
3D model XC7354-PC68 (68-Pin Plastic Leaded Chip Carrier (PC68))
pins: 1 I/FI~{/MR} (in), 2 I/FI (in), 3 I/FI (in), 4 I/FO/MC1-1 (io), 5 I/FI (in), 6 I/O/FI/MC6-7 (io), 7 GND (power), 8 O/FCLK0/MC6-3 (io), 9 O/FCLK1/MC6-4 (io), 10 O/FCLK2/MC6-5 (io), 11 I/FI (in), 12 I/FO/MC1-2 (io), 13 I/FO/MC1-3 (io), 14 GND (power), 15 I/FO/MC1-4 (io), 16 I/O/MC5-5 (io), 17 I/FO/MC1-5 (io), 18 I/O/MC5-6 (io), 19 I/FO/MC1-6 (io), 20 VCCIO (power), 21 I/FO/MC1-7 (io), 22 I/FO/MC1-8 (io), 23 I/FO/MC1-9 (io), 24 I/O/FI/MC6-8 (io), 25 I/O/FI/MC5-7 (io), 26 I/O/FI/MC6-9 (io), 27 I/O/FI/MC6-1 (io), 28 I/O/FI/MC6-2 (io), 29 I/O/FI/MC6-6 (io), 30 VCCINT (power), 31 I/O/FI/MC5-8 (io), 32 I/O/MC5-1 (io), 33 I/O/MC5-2 (io), 34 GND (power), 35 I/O/MC5-3 (io), 36 I/O/FI/MC5-9 (io), 37 I/O/MC5-4 (io), 38 I/O/MC4-1 (io), 39 I/O/FI/MC4-7 (io), 40 I/O/FI/MC4-8 (io), 41 GND (power), 42 I/O/FI/MC4-9 (io), 43 I/FI (in), 44 I/O/FI/MC3-7 (io), 45 I/O/FI/MC3-8 (io), 46 I/FO/MC2-9 (io), 47 I/O/FI/MC3-9 (io), 48 I/FO/MC2-8 (io), 49 GND (power), 50 VCCIO (power), 51 I/FO/MC2-7 (io), 52 I/FO/MC2-6 (io), 53 I/O/MC4-2 (io), 54 I/O/MC4-3 (io), 55 I/FO/MC2-5 (io), 56 I/FO/MC2-4 (io), 57 I/FO/MC2-3 (io), 58 I/FO/MC2-2 (io), 59 VCCINT (power), 60 O/~{CKEN0}/MC3-3 (io), 61 O/~{CKEN1}/MC3-4 (io), 62 O/FOE0/MC3-5 (io), 63 VCCINT/VPP (power), 64 O/FOE1/MC3-6 (io), 65 I/FI (in), 66 I/FO/MC2-1 (io), 67 I/FI (in), 68 I/FI (in)

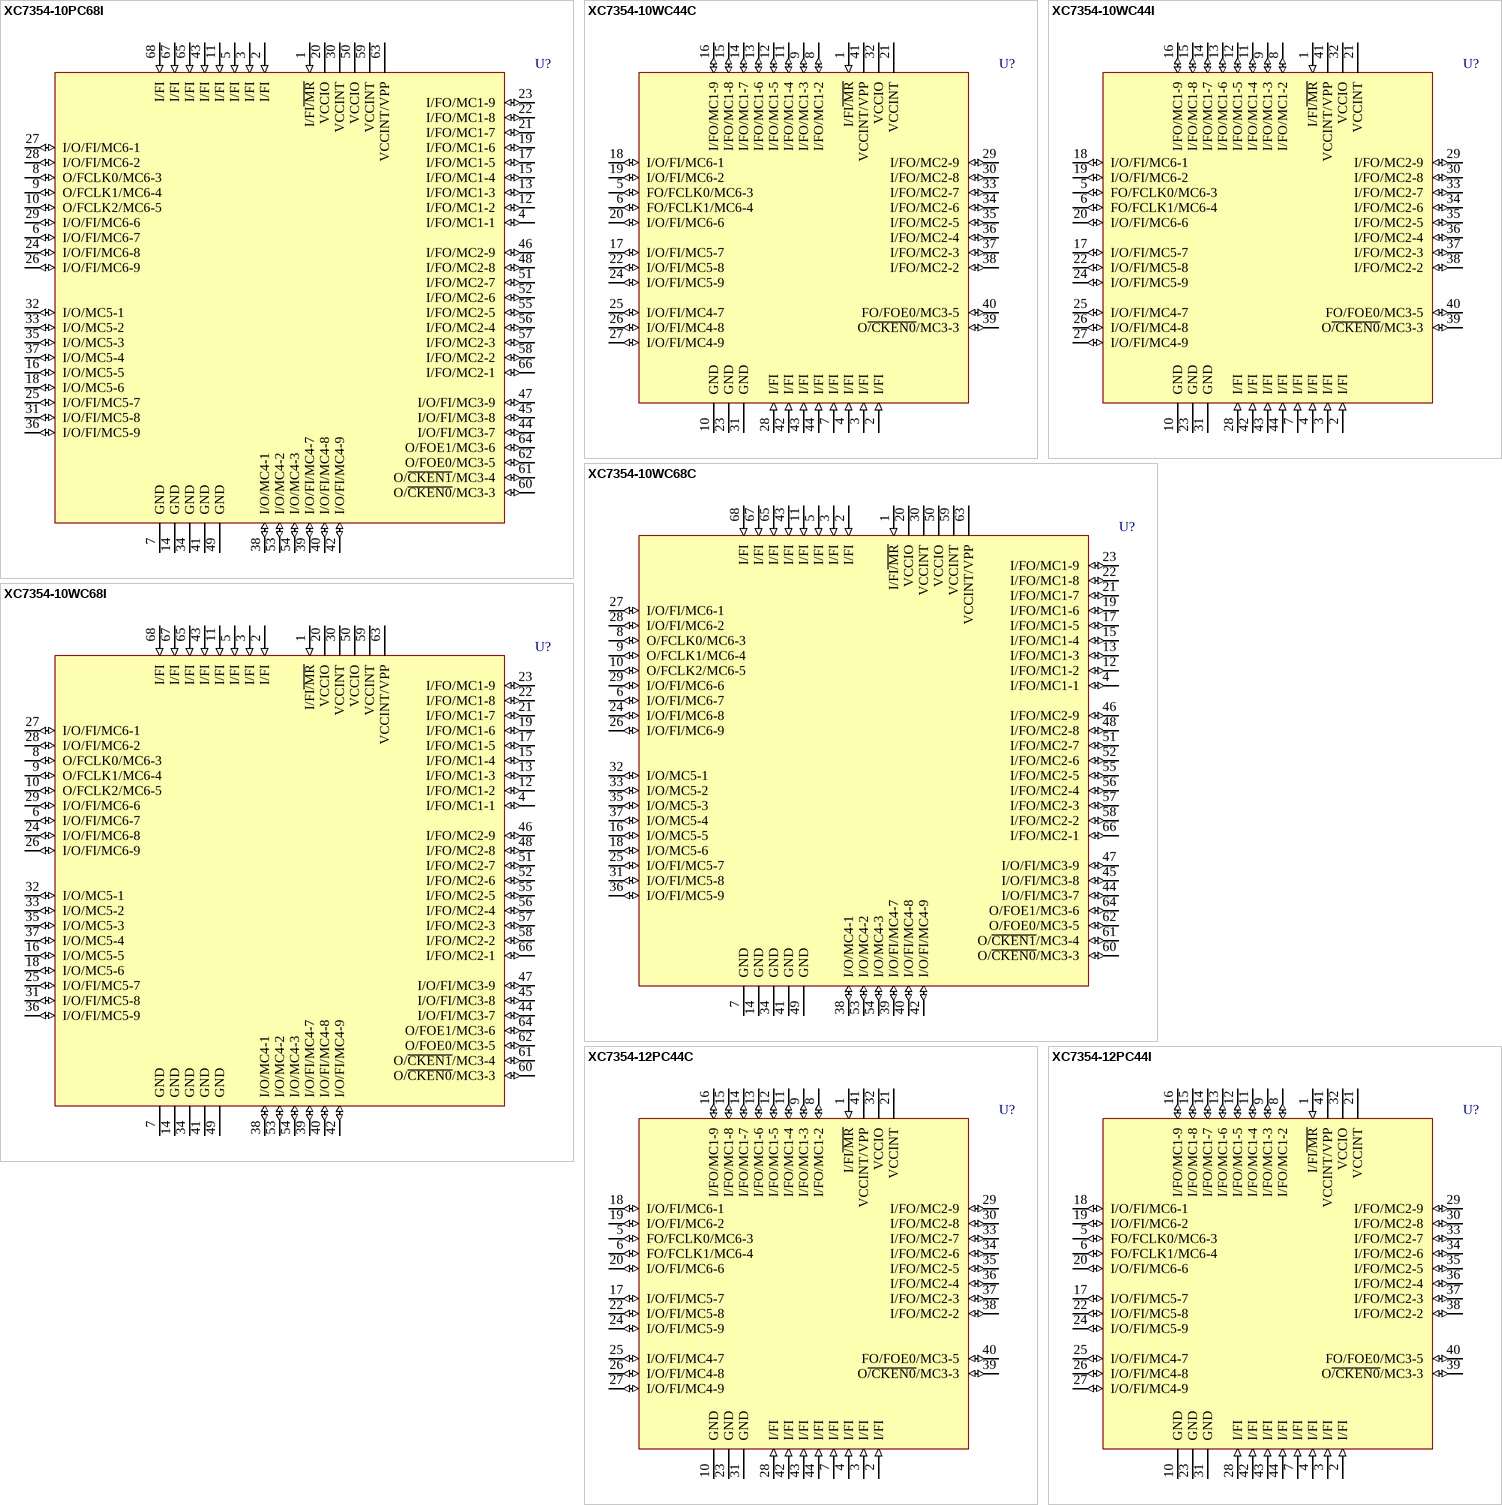
[diagram p16: symbols XC7354-10PC68I to XC7354-12PC44I]

## XC7354-10PC68I
designator U?
54 Macrocell CMOS EPLD, with 23 I/O Pins, 68-Pin PLCC, Industrial Grade; Published: 8-Jun-2000; LatestRevisionDate: 13-Apr-2006; LatestRevisionNote: IPC-7351 Footprint Added.; DatasheetVersion: 1994; PackageVersion: ver1.2, Jun-2004; PackageReference: PC68; Publisher: Altium Limited; PackageDescription: 68-Pin Plastic Leaded Chip Carrier (PC68); Code_JEDEC: MO-047; Code_IPC: PLCC-68; ComponentLink1Description: Manufacturer Link; ComponentLink1URL: http://www.xilinx.com/; ComponentLink2Description: Discontinuation Notice; ComponentLink2URL: http://direct.xilinx.com/bvdocs/notifications/pdn97008a.pdf
footprint PC68_N (Leaded Chip Carrier, 68-Leads, Body 24x24mm, Pitch 1.27mm, IPC Medium Density)
footprint PC68_L (Leaded Chip Carrier, 68-Leads, Body 24x24mm, Pitch 1.27mm, IPC High Density)
footprint PC68_M (Leaded Chip Carrier, 68-Leads, Body 24x24mm, Pitch 1.27mm, IPC Low Density)
3D model XC7354-PC68 (68-Pin Plastic Leaded Chip Carrier (PC68))
pins: 1 I/FI~{/MR} (in), 2 I/FI (in), 3 I/FI (in), 4 I/FO/MC1-1 (io), 5 I/FI (in), 6 I/O/FI/MC6-7 (io), 7 GND (power), 8 O/FCLK0/MC6-3 (io), 9 O/FCLK1/MC6-4 (io), 10 O/FCLK2/MC6-5 (io), 11 I/FI (in), 12 I/FO/MC1-2 (io), 13 I/FO/MC1-3 (io), 14 GND (power), 15 I/FO/MC1-4 (io), 16 I/O/MC5-5 (io), 17 I/FO/MC1-5 (io), 18 I/O/MC5-6 (io), 19 I/FO/MC1-6 (io), 20 VCCIO (power), 21 I/FO/MC1-7 (io), 22 I/FO/MC1-8 (io), 23 I/FO/MC1-9 (io), 24 I/O/FI/MC6-8 (io), 25 I/O/FI/MC5-7 (io), 26 I/O/FI/MC6-9 (io), 27 I/O/FI/MC6-1 (io), 28 I/O/FI/MC6-2 (io), 29 I/O/FI/MC6-6 (io), 30 VCCINT (power), 31 I/O/FI/MC5-8 (io), 32 I/O/MC5-1 (io), 33 I/O/MC5-2 (io), 34 GND (power), 35 I/O/MC5-3 (io), 36 I/O/FI/MC5-9 (io), 37 I/O/MC5-4 (io), 38 I/O/MC4-1 (io), 39 I/O/FI/MC4-7 (io), 40 I/O/FI/MC4-8 (io), 41 GND (power), 42 I/O/FI/MC4-9 (io), 43 I/FI (in), 44 I/O/FI/MC3-7 (io), 45 I/O/FI/MC3-8 (io), 46 I/FO/MC2-9 (io), 47 I/O/FI/MC3-9 (io), 48 I/FO/MC2-8 (io), 49 GND (power), 50 VCCIO (power), 51 I/FO/MC2-7 (io), 52 I/FO/MC2-6 (io), 53 I/O/MC4-2 (io), 54 I/O/MC4-3 (io), 55 I/FO/MC2-5 (io), 56 I/FO/MC2-4 (io), 57 I/FO/MC2-3 (io), 58 I/FO/MC2-2 (io), 59 VCCINT (power), 60 O/~{CKEN0}/MC3-3 (io), 61 O/~{CKEN1}/MC3-4 (io), 62 O/FOE0/MC3-5 (io), 63 VCCINT/VPP (power), 64 O/FOE1/MC3-6 (io), 65 I/FI (in), 66 I/FO/MC2-1 (io), 67 I/FI (in), 68 I/FI (in)

## XC7354-10WC44C
designator U?
54 Macrocell CMOS EPLD, with 27 I/O Pins, 44-Pin LCC, Commercial Grade; Published: 8-Jun-2000; LatestRevisionDate: 13-Apr-2006; LatestRevisionNote: IPC-7351 Footprint Added.; DatasheetVersion: 1994; PackageVersion: 1994; PackageReference: WC44; Publisher: Altium Limited; PackageDescription: 44-Pin Window Ceramic Leaded Chip Carrier (WC44); Code_IPC: PLCC-44; ComponentLink1Description: Manufacturer Link; ComponentLink1URL: http://www.xilinx.com/; ComponentLink2Description: Discontinuation Notice; ComponentLink2URL: http://direct.xilinx.com/bvdocs/notifications/pdn97008a.pdf
footprint WC44_N (Leaded Chip Carrier, 44-Leads, Body 16.4x16.4mm, Pitch 1.27mm, IPC Medium Density)
footprint WC44_L (Leaded Chip Carrier, 44-Leads, Body 16.4x16.4mm, Pitch 1.27mm, IPC High Density)
footprint WC44_M (Leaded Chip Carrier, 44-Leads, Body 16.4x16.4mm, Pitch 1.27mm, IPC Low Density)
3D model XC7354-WC44 (44-Pin Window Ceramic Leaded Chip Carrier (WC44))
pins: 1 I/FI~{/MR} (in), 2 I/FI (in), 3 I/FI (in), 4 I/FI (in), 5 FO/FCLK0/MC6-3 (io), 6 FO/FCLK1/MC6-4 (io), 7 I/FI (in), 8 I/FO/MC1-2 (io), 9 I/FO/MC1-3 (io), 10 GND (power), 11 I/FO/MC1-4 (io), 12 I/FO/MC1-5 (io), 13 I/FO/MC1-6 (io), 14 I/FO/MC1-7 (io), 15 I/FO/MC1-8 (io), 16 I/FO/MC1-9 (io), 17 I/O/FI/MC5-7 (io), 18 I/O/FI/MC6-1 (io), 19 I/O/FI/MC6-2 (io), 20 I/O/FI/MC6-6 (io), 21 VCCINT (power), 22 I/O/FI/MC5-8 (io), 23 GND (power), 24 I/O/FI/MC5-9 (io), 25 I/O/FI/MC4-7 (io), 26 I/O/FI/MC4-8 (io), 27 I/O/FI/MC4-9 (io), 28 I/FI (in), 29 I/FO/MC2-9 (io), 30 I/FO/MC2-8 (io), 31 GND (power), 32 VCCIO (power), 33 I/FO/MC2-7 (io), 34 I/FO/MC2-6 (io), 35 I/FO/MC2-5 (io), 36 I/FO/MC2-4 (io), 37 I/FO/MC2-3 (io), 38 I/FO/MC2-2 (io), 39 O~{/CKEN0}/MC3-3 (io), 40 FO/FOE0/MC3-5 (io), 41 VCCINT/VPP (power), 42 I/FI (in), 43 I/FI (in), 44 I/FI (in)

## XC7354-10WC44I
designator U?
54 Macrocell CMOS EPLD, with 27 I/O Pins, 44-Pin LCC, Industrial Grade; Published: 8-Jun-2000; LatestRevisionDate: 13-Apr-2006; LatestRevisionNote: IPC-7351 Footprint Added.; DatasheetVersion: 1994; PackageVersion: 1994; PackageReference: WC44; Publisher: Altium Limited; PackageDescription: 44-Pin Window Ceramic Leaded Chip Carrier (WC44); Code_IPC: PLCC-44; ComponentLink1Description: Manufacturer Link; ComponentLink1URL: http://www.xilinx.com/; ComponentLink2Description: Discontinuation Notice; ComponentLink2URL: http://direct.xilinx.com/bvdocs/notifications/pdn97008a.pdf
footprint WC44_N (Leaded Chip Carrier, 44-Leads, Body 16.4x16.4mm, Pitch 1.27mm, IPC Medium Density)
footprint WC44_L (Leaded Chip Carrier, 44-Leads, Body 16.4x16.4mm, Pitch 1.27mm, IPC High Density)
footprint WC44_M (Leaded Chip Carrier, 44-Leads, Body 16.4x16.4mm, Pitch 1.27mm, IPC Low Density)
3D model XC7354-WC44 (44-Pin Window Ceramic Leaded Chip Carrier (WC44))
pins: 1 I/FI~{/MR} (in), 2 I/FI (in), 3 I/FI (in), 4 I/FI (in), 5 FO/FCLK0/MC6-3 (io), 6 FO/FCLK1/MC6-4 (io), 7 I/FI (in), 8 I/FO/MC1-2 (io), 9 I/FO/MC1-3 (io), 10 GND (power), 11 I/FO/MC1-4 (io), 12 I/FO/MC1-5 (io), 13 I/FO/MC1-6 (io), 14 I/FO/MC1-7 (io), 15 I/FO/MC1-8 (io), 16 I/FO/MC1-9 (io), 17 I/O/FI/MC5-7 (io), 18 I/O/FI/MC6-1 (io), 19 I/O/FI/MC6-2 (io), 20 I/O/FI/MC6-6 (io), 21 VCCINT (power), 22 I/O/FI/MC5-8 (io), 23 GND (power), 24 I/O/FI/MC5-9 (io), 25 I/O/FI/MC4-7 (io), 26 I/O/FI/MC4-8 (io), 27 I/O/FI/MC4-9 (io), 28 I/FI (in), 29 I/FO/MC2-9 (io), 30 I/FO/MC2-8 (io), 31 GND (power), 32 VCCIO (power), 33 I/FO/MC2-7 (io), 34 I/FO/MC2-6 (io), 35 I/FO/MC2-5 (io), 36 I/FO/MC2-4 (io), 37 I/FO/MC2-3 (io), 38 I/FO/MC2-2 (io), 39 O~{/CKEN0}/MC3-3 (io), 40 FO/FOE0/MC3-5 (io), 41 VCCINT/VPP (power), 42 I/FI (in), 43 I/FI (in), 44 I/FI (in)

## XC7354-10WC68C
designator U?
54 Macrocell CMOS EPLD, with 23 I/O Pins, 68-Pin CLCC, Commercial Grade; Published: 8-Jun-2000; LatestRevisionDate: 13-Apr-2006; LatestRevisionNote: IPC-7351 Footprint Added.; DatasheetVersion: 1994; PackageVersion: 1994; PackageReference: WC68; Publisher: Altium Limited; PackageDescription: 68-Pin Window Ceramic Leaded Chip Carrier (WC68); Code_IPC: PLCC-68; ComponentLink1Description: Manufacturer Link; ComponentLink1URL: http://www.xilinx.com/; ComponentLink2Description: Discontinuation Notice; ComponentLink2URL: http://direct.xilinx.com/bvdocs/notifications/pdn97008a.pdf
footprint WC68_N (Leaded Chip Carrier, 68-Leads, Body 24x24mm, Pitch 1.27mm, IPC Medium Density)
footprint WC68_L (Leaded Chip Carrier, 68-Leads, Body 24x24mm, Pitch 1.27mm, IPC High Density)
footprint WC68_M (Leaded Chip Carrier, 68-Leads, Body 24x24mm, Pitch 1.27mm, IPC Low Density)
3D model XC7354-WC68 (68-Pin Window Ceramic Leaded Chip Carrier (WC68))
pins: 1 I/FI~{/MR} (in), 2 I/FI (in), 3 I/FI (in), 4 I/FO/MC1-1 (io), 5 I/FI (in), 6 I/O/FI/MC6-7 (io), 7 GND (power), 8 O/FCLK0/MC6-3 (io), 9 O/FCLK1/MC6-4 (io), 10 O/FCLK2/MC6-5 (io), 11 I/FI (in), 12 I/FO/MC1-2 (io), 13 I/FO/MC1-3 (io), 14 GND (power), 15 I/FO/MC1-4 (io), 16 I/O/MC5-5 (io), 17 I/FO/MC1-5 (io), 18 I/O/MC5-6 (io), 19 I/FO/MC1-6 (io), 20 VCCIO (power), 21 I/FO/MC1-7 (io), 22 I/FO/MC1-8 (io), 23 I/FO/MC1-9 (io), 24 I/O/FI/MC6-8 (io), 25 I/O/FI/MC5-7 (io), 26 I/O/FI/MC6-9 (io), 27 I/O/FI/MC6-1 (io), 28 I/O/FI/MC6-2 (io), 29 I/O/FI/MC6-6 (io), 30 VCCINT (power), 31 I/O/FI/MC5-8 (io), 32 I/O/MC5-1 (io), 33 I/O/MC5-2 (io), 34 GND (power), 35 I/O/MC5-3 (io), 36 I/O/FI/MC5-9 (io), 37 I/O/MC5-4 (io), 38 I/O/MC4-1 (io), 39 I/O/FI/MC4-7 (io), 40 I/O/FI/MC4-8 (io), 41 GND (power), 42 I/O/FI/MC4-9 (io), 43 I/FI (in), 44 I/O/FI/MC3-7 (io), 45 I/O/FI/MC3-8 (io), 46 I/FO/MC2-9 (io), 47 I/O/FI/MC3-9 (io), 48 I/FO/MC2-8 (io), 49 GND (power), 50 VCCIO (power), 51 I/FO/MC2-7 (io), 52 I/FO/MC2-6 (io), 53 I/O/MC4-2 (io), 54 I/O/MC4-3 (io), 55 I/FO/MC2-5 (io), 56 I/FO/MC2-4 (io), 57 I/FO/MC2-3 (io), 58 I/FO/MC2-2 (io), 59 VCCINT (power), 60 O/~{CKEN0}/MC3-3 (io), 61 O/~{CKEN1}/MC3-4 (io), 62 O/FOE0/MC3-5 (io), 63 VCCINT/VPP (power), 64 O/FOE1/MC3-6 (io), 65 I/FI (in), 66 I/FO/MC2-1 (io), 67 I/FI (in), 68 I/FI (in)

## XC7354-10WC68I
designator U?
54 Macrocell CMOS EPLD, with 23 I/O Pins, 68-Pin CLCC, Industrial Grade; Published: 8-Jun-2000; LatestRevisionDate: 13-Apr-2006; LatestRevisionNote: IPC-7351 Footprint Added.; DatasheetVersion: 1994; PackageVersion: 1994; PackageReference: WC68; Publisher: Altium Limited; PackageDescription: 68-Pin Window Ceramic Leaded Chip Carrier (WC68); Code_IPC: PLCC-68; ComponentLink1Description: Manufacturer Link; ComponentLink1URL: http://www.xilinx.com/; ComponentLink2Description: Discontinuation Notice; ComponentLink2URL: http://direct.xilinx.com/bvdocs/notifications/pdn97008a.pdf
footprint WC68_N (Leaded Chip Carrier, 68-Leads, Body 24x24mm, Pitch 1.27mm, IPC Medium Density)
footprint WC68_L (Leaded Chip Carrier, 68-Leads, Body 24x24mm, Pitch 1.27mm, IPC High Density)
footprint WC68_M (Leaded Chip Carrier, 68-Leads, Body 24x24mm, Pitch 1.27mm, IPC Low Density)
3D model XC7354-WC68 (68-Pin Window Ceramic Leaded Chip Carrier (WC68))
pins: 1 I/FI~{/MR} (in), 2 I/FI (in), 3 I/FI (in), 4 I/FO/MC1-1 (io), 5 I/FI (in), 6 I/O/FI/MC6-7 (io), 7 GND (power), 8 O/FCLK0/MC6-3 (io), 9 O/FCLK1/MC6-4 (io), 10 O/FCLK2/MC6-5 (io), 11 I/FI (in), 12 I/FO/MC1-2 (io), 13 I/FO/MC1-3 (io), 14 GND (power), 15 I/FO/MC1-4 (io), 16 I/O/MC5-5 (io), 17 I/FO/MC1-5 (io), 18 I/O/MC5-6 (io), 19 I/FO/MC1-6 (io), 20 VCCIO (power), 21 I/FO/MC1-7 (io), 22 I/FO/MC1-8 (io), 23 I/FO/MC1-9 (io), 24 I/O/FI/MC6-8 (io), 25 I/O/FI/MC5-7 (io), 26 I/O/FI/MC6-9 (io), 27 I/O/FI/MC6-1 (io), 28 I/O/FI/MC6-2 (io), 29 I/O/FI/MC6-6 (io), 30 VCCINT (power), 31 I/O/FI/MC5-8 (io), 32 I/O/MC5-1 (io), 33 I/O/MC5-2 (io), 34 GND (power), 35 I/O/MC5-3 (io), 36 I/O/FI/MC5-9 (io), 37 I/O/MC5-4 (io), 38 I/O/MC4-1 (io), 39 I/O/FI/MC4-7 (io), 40 I/O/FI/MC4-8 (io), 41 GND (power), 42 I/O/FI/MC4-9 (io), 43 I/FI (in), 44 I/O/FI/MC3-7 (io), 45 I/O/FI/MC3-8 (io), 46 I/FO/MC2-9 (io), 47 I/O/FI/MC3-9 (io), 48 I/FO/MC2-8 (io), 49 GND (power), 50 VCCIO (power), 51 I/FO/MC2-7 (io), 52 I/FO/MC2-6 (io), 53 I/O/MC4-2 (io), 54 I/O/MC4-3 (io), 55 I/FO/MC2-5 (io), 56 I/FO/MC2-4 (io), 57 I/FO/MC2-3 (io), 58 I/FO/MC2-2 (io), 59 VCCINT (power), 60 O/~{CKEN0}/MC3-3 (io), 61 O/~{CKEN1}/MC3-4 (io), 62 O/FOE0/MC3-5 (io), 63 VCCINT/VPP (power), 64 O/FOE1/MC3-6 (io), 65 I/FI (in), 66 I/FO/MC2-1 (io), 67 I/FI (in), 68 I/FI (in)

## XC7354-12PC44C
designator U?
54 Macrocell CMOS EPLD, with 27 I/O Pins, 44-Pin PLCC, Commercial Grade; Published: 8-Jun-2000; LatestRevisionDate: 13-Apr-2006; LatestRevisionNote: IPC-7351 Footprint Added.; DatasheetVersion: 1994; PackageVersion: ver1.2, Jun-2004; PackageReference: PC44; Publisher: Altium Limited; PackageDescription: 44-Pin Plastic Leaded Chip Carrier (PC44); Code_JEDEC: MS-047; Code_IPC: PLCC-44; ComponentLink1Description: Manufacturer Link; ComponentLink1URL: http://www.xilinx.com/; ComponentLink2Description: Discontinuation Notice; ComponentLink2URL: http://direct.xilinx.com/bvdocs/notifications/pdn97008a.pdf
footprint PC44_N (Leaded Chip Carrier, 44-Leads, Body 16.6x16.6mm, Pitch 1.27mm, IPC Medium Density)
footprint PC44_L (Leaded Chip Carrier, 44-Leads, Body 16.6x16.6mm, Pitch 1.27mm, IPC High Density)
footprint PC44_M (Leaded Chip Carrier, 44-Leads, Body 16.6x16.6mm, Pitch 1.27mm, IPC Low Density)
3D model XC7354-PC44 (44-Pin Plastic Leaded Chip Carrier (PC44))
pins: 1 I/FI~{/MR} (in), 2 I/FI (in), 3 I/FI (in), 4 I/FI (in), 5 FO/FCLK0/MC6-3 (io), 6 FO/FCLK1/MC6-4 (io), 7 I/FI (in), 8 I/FO/MC1-2 (io), 9 I/FO/MC1-3 (io), 10 GND (power), 11 I/FO/MC1-4 (io), 12 I/FO/MC1-5 (io), 13 I/FO/MC1-6 (io), 14 I/FO/MC1-7 (io), 15 I/FO/MC1-8 (io), 16 I/FO/MC1-9 (io), 17 I/O/FI/MC5-7 (io), 18 I/O/FI/MC6-1 (io), 19 I/O/FI/MC6-2 (io), 20 I/O/FI/MC6-6 (io), 21 VCCINT (power), 22 I/O/FI/MC5-8 (io), 23 GND (power), 24 I/O/FI/MC5-9 (io), 25 I/O/FI/MC4-7 (io), 26 I/O/FI/MC4-8 (io), 27 I/O/FI/MC4-9 (io), 28 I/FI (in), 29 I/FO/MC2-9 (io), 30 I/FO/MC2-8 (io), 31 GND (power), 32 VCCIO (power), 33 I/FO/MC2-7 (io), 34 I/FO/MC2-6 (io), 35 I/FO/MC2-5 (io), 36 I/FO/MC2-4 (io), 37 I/FO/MC2-3 (io), 38 I/FO/MC2-2 (io), 39 O~{/CKEN0}/MC3-3 (io), 40 FO/FOE0/MC3-5 (io), 41 VCCINT/VPP (power), 42 I/FI (in), 43 I/FI (in), 44 I/FI (in)

## XC7354-12PC44I
designator U?
54 Macrocell CMOS EPLD, with 27 I/O Pins, 44-Pin PLCC, Industrial Grade; Published: 8-Jun-2000; LatestRevisionDate: 13-Apr-2006; LatestRevisionNote: IPC-7351 Footprint Added.; DatasheetVersion: 1994; PackageVersion: ver1.2, Jun-2004; PackageReference: PC44; Publisher: Altium Limited; PackageDescription: 44-Pin Plastic Leaded Chip Carrier (PC44); Code_JEDEC: MS-047; Code_IPC: PLCC-44; ComponentLink1Description: Manufacturer Link; ComponentLink1URL: http://www.xilinx.com/; ComponentLink2Description: Discontinuation Notice; ComponentLink2URL: http://direct.xilinx.com/bvdocs/notifications/pdn97008a.pdf
footprint PC44_N (Leaded Chip Carrier, 44-Leads, Body 16.6x16.6mm, Pitch 1.27mm, IPC Medium Density)
footprint PC44_L (Leaded Chip Carrier, 44-Leads, Body 16.6x16.6mm, Pitch 1.27mm, IPC High Density)
footprint PC44_M (Leaded Chip Carrier, 44-Leads, Body 16.6x16.6mm, Pitch 1.27mm, IPC Low Density)
3D model XC7354-PC44 (44-Pin Plastic Leaded Chip Carrier (PC44))
pins: 1 I/FI~{/MR} (in), 2 I/FI (in), 3 I/FI (in), 4 I/FI (in), 5 FO/FCLK0/MC6-3 (io), 6 FO/FCLK1/MC6-4 (io), 7 I/FI (in), 8 I/FO/MC1-2 (io), 9 I/FO/MC1-3 (io), 10 GND (power), 11 I/FO/MC1-4 (io), 12 I/FO/MC1-5 (io), 13 I/FO/MC1-6 (io), 14 I/FO/MC1-7 (io), 15 I/FO/MC1-8 (io), 16 I/FO/MC1-9 (io), 17 I/O/FI/MC5-7 (io), 18 I/O/FI/MC6-1 (io), 19 I/O/FI/MC6-2 (io), 20 I/O/FI/MC6-6 (io), 21 VCCINT (power), 22 I/O/FI/MC5-8 (io), 23 GND (power), 24 I/O/FI/MC5-9 (io), 25 I/O/FI/MC4-7 (io), 26 I/O/FI/MC4-8 (io), 27 I/O/FI/MC4-9 (io), 28 I/FI (in), 29 I/FO/MC2-9 (io), 30 I/FO/MC2-8 (io), 31 GND (power), 32 VCCIO (power), 33 I/FO/MC2-7 (io), 34 I/FO/MC2-6 (io), 35 I/FO/MC2-5 (io), 36 I/FO/MC2-4 (io), 37 I/FO/MC2-3 (io), 38 I/FO/MC2-2 (io), 39 O~{/CKEN0}/MC3-3 (io), 40 FO/FOE0/MC3-5 (io), 41 VCCINT/VPP (power), 42 I/FI (in), 43 I/FI (in), 44 I/FI (in)

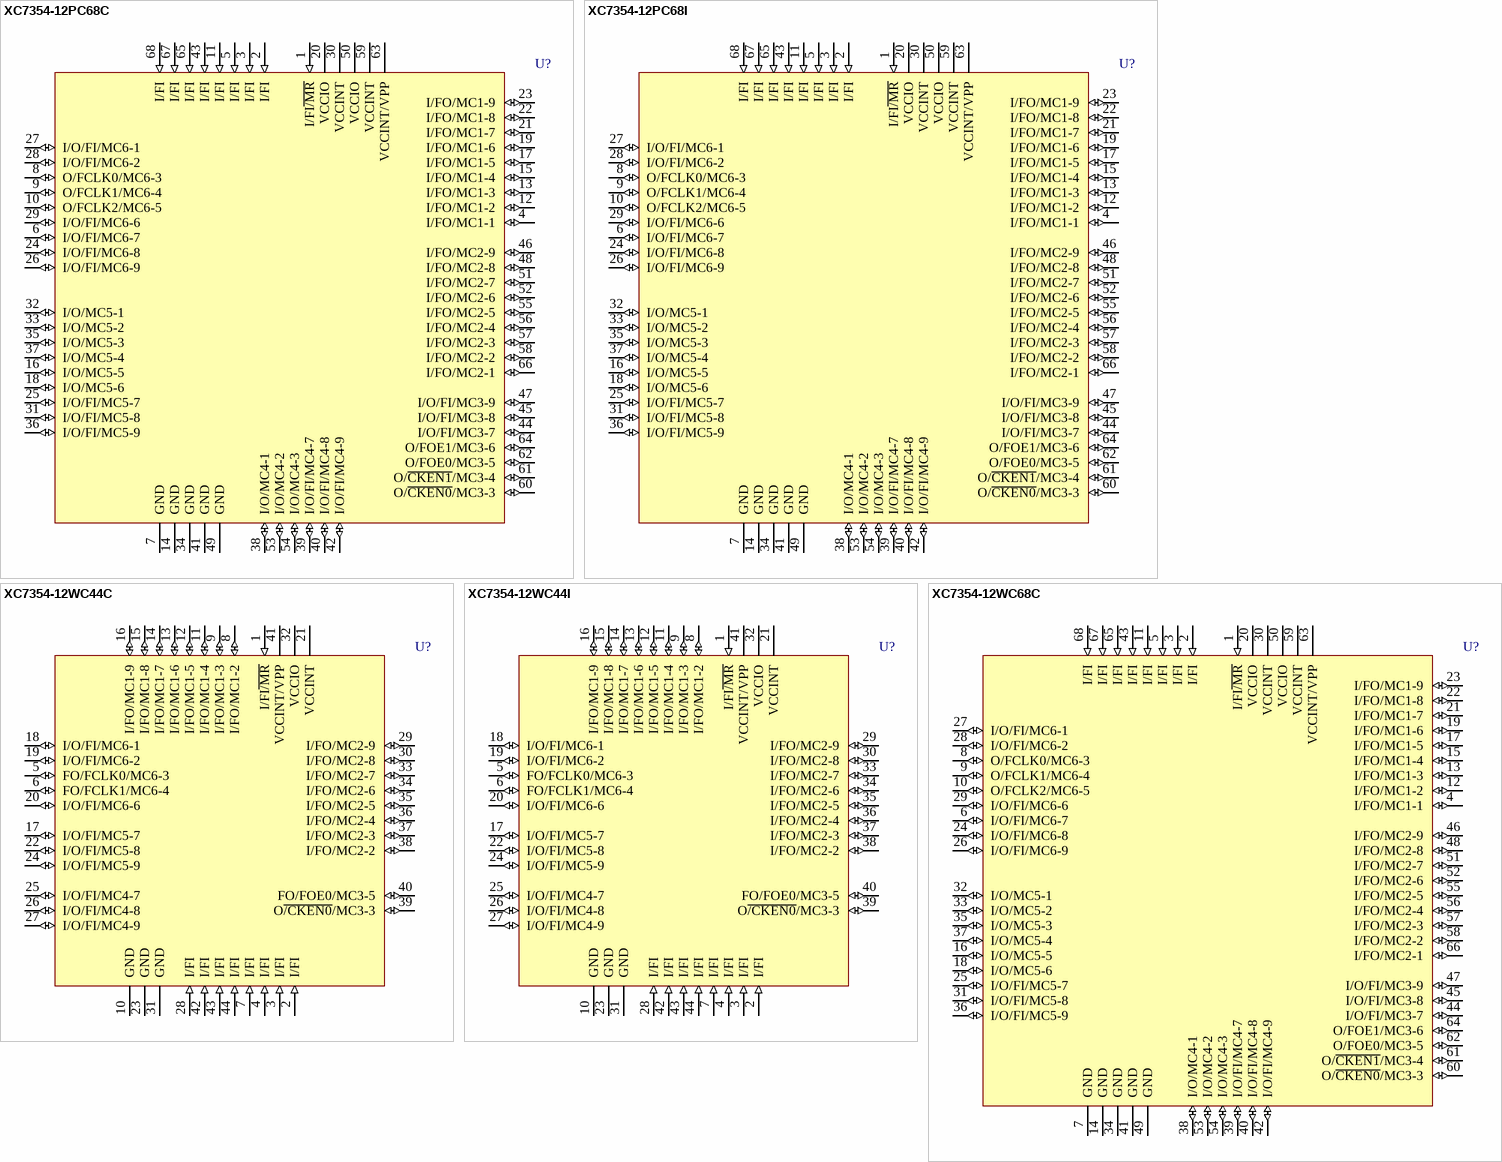
[diagram p17: symbols XC7354-12PC68C to XC7354-12WC68C]

## XC7354-12PC68C
designator U?
54 Macrocell CMOS EPLD, with 23 I/O Pins, 68-Pin PLCC, Commercial Grade; Published: 8-Jun-2000; LatestRevisionDate: 13-Apr-2006; LatestRevisionNote: IPC-7351 Footprint Added.; DatasheetVersion: 1994; PackageVersion: ver1.2, Jun-2004; PackageReference: PC68; Publisher: Altium Limited; PackageDescription: 68-Pin Plastic Leaded Chip Carrier (PC68); Code_JEDEC: MO-047; Code_IPC: PLCC-68; ComponentLink1Description: Manufacturer Link; ComponentLink1URL: http://www.xilinx.com/; ComponentLink2Description: Discontinuation Notice; ComponentLink2URL: http://direct.xilinx.com/bvdocs/notifications/pdn97008a.pdf
footprint PC68_N (Leaded Chip Carrier, 68-Leads, Body 24x24mm, Pitch 1.27mm, IPC Medium Density)
footprint PC68_L (Leaded Chip Carrier, 68-Leads, Body 24x24mm, Pitch 1.27mm, IPC High Density)
footprint PC68_M (Leaded Chip Carrier, 68-Leads, Body 24x24mm, Pitch 1.27mm, IPC Low Density)
3D model XC7354-PC68 (68-Pin Plastic Leaded Chip Carrier (PC68))
pins: 1 I/FI~{/MR} (in), 2 I/FI (in), 3 I/FI (in), 4 I/FO/MC1-1 (io), 5 I/FI (in), 6 I/O/FI/MC6-7 (io), 7 GND (power), 8 O/FCLK0/MC6-3 (io), 9 O/FCLK1/MC6-4 (io), 10 O/FCLK2/MC6-5 (io), 11 I/FI (in), 12 I/FO/MC1-2 (io), 13 I/FO/MC1-3 (io), 14 GND (power), 15 I/FO/MC1-4 (io), 16 I/O/MC5-5 (io), 17 I/FO/MC1-5 (io), 18 I/O/MC5-6 (io), 19 I/FO/MC1-6 (io), 20 VCCIO (power), 21 I/FO/MC1-7 (io), 22 I/FO/MC1-8 (io), 23 I/FO/MC1-9 (io), 24 I/O/FI/MC6-8 (io), 25 I/O/FI/MC5-7 (io), 26 I/O/FI/MC6-9 (io), 27 I/O/FI/MC6-1 (io), 28 I/O/FI/MC6-2 (io), 29 I/O/FI/MC6-6 (io), 30 VCCINT (power), 31 I/O/FI/MC5-8 (io), 32 I/O/MC5-1 (io), 33 I/O/MC5-2 (io), 34 GND (power), 35 I/O/MC5-3 (io), 36 I/O/FI/MC5-9 (io), 37 I/O/MC5-4 (io), 38 I/O/MC4-1 (io), 39 I/O/FI/MC4-7 (io), 40 I/O/FI/MC4-8 (io), 41 GND (power), 42 I/O/FI/MC4-9 (io), 43 I/FI (in), 44 I/O/FI/MC3-7 (io), 45 I/O/FI/MC3-8 (io), 46 I/FO/MC2-9 (io), 47 I/O/FI/MC3-9 (io), 48 I/FO/MC2-8 (io), 49 GND (power), 50 VCCIO (power), 51 I/FO/MC2-7 (io), 52 I/FO/MC2-6 (io), 53 I/O/MC4-2 (io), 54 I/O/MC4-3 (io), 55 I/FO/MC2-5 (io), 56 I/FO/MC2-4 (io), 57 I/FO/MC2-3 (io), 58 I/FO/MC2-2 (io), 59 VCCINT (power), 60 O/~{CKEN0}/MC3-3 (io), 61 O/~{CKEN1}/MC3-4 (io), 62 O/FOE0/MC3-5 (io), 63 VCCINT/VPP (power), 64 O/FOE1/MC3-6 (io), 65 I/FI (in), 66 I/FO/MC2-1 (io), 67 I/FI (in), 68 I/FI (in)

## XC7354-12PC68I
designator U?
54 Macrocell CMOS EPLD, with 23 I/O Pins, 68-Pin PLCC, Industrial Grade; Published: 8-Jun-2000; LatestRevisionDate: 13-Apr-2006; LatestRevisionNote: IPC-7351 Footprint Added.; DatasheetVersion: 1994; PackageVersion: ver1.2, Jun-2004; PackageReference: PC68; Publisher: Altium Limited; PackageDescription: 68-Pin Plastic Leaded Chip Carrier (PC68); Code_JEDEC: MO-047; Code_IPC: PLCC-68; ComponentLink1Description: Manufacturer Link; ComponentLink1URL: http://www.xilinx.com/; ComponentLink2Description: Discontinuation Notice; ComponentLink2URL: http://direct.xilinx.com/bvdocs/notifications/pdn97008a.pdf
footprint PC68_N (Leaded Chip Carrier, 68-Leads, Body 24x24mm, Pitch 1.27mm, IPC Medium Density)
footprint PC68_L (Leaded Chip Carrier, 68-Leads, Body 24x24mm, Pitch 1.27mm, IPC High Density)
footprint PC68_M (Leaded Chip Carrier, 68-Leads, Body 24x24mm, Pitch 1.27mm, IPC Low Density)
3D model XC7354-PC68 (68-Pin Plastic Leaded Chip Carrier (PC68))
pins: 1 I/FI~{/MR} (in), 2 I/FI (in), 3 I/FI (in), 4 I/FO/MC1-1 (io), 5 I/FI (in), 6 I/O/FI/MC6-7 (io), 7 GND (power), 8 O/FCLK0/MC6-3 (io), 9 O/FCLK1/MC6-4 (io), 10 O/FCLK2/MC6-5 (io), 11 I/FI (in), 12 I/FO/MC1-2 (io), 13 I/FO/MC1-3 (io), 14 GND (power), 15 I/FO/MC1-4 (io), 16 I/O/MC5-5 (io), 17 I/FO/MC1-5 (io), 18 I/O/MC5-6 (io), 19 I/FO/MC1-6 (io), 20 VCCIO (power), 21 I/FO/MC1-7 (io), 22 I/FO/MC1-8 (io), 23 I/FO/MC1-9 (io), 24 I/O/FI/MC6-8 (io), 25 I/O/FI/MC5-7 (io), 26 I/O/FI/MC6-9 (io), 27 I/O/FI/MC6-1 (io), 28 I/O/FI/MC6-2 (io), 29 I/O/FI/MC6-6 (io), 30 VCCINT (power), 31 I/O/FI/MC5-8 (io), 32 I/O/MC5-1 (io), 33 I/O/MC5-2 (io), 34 GND (power), 35 I/O/MC5-3 (io), 36 I/O/FI/MC5-9 (io), 37 I/O/MC5-4 (io), 38 I/O/MC4-1 (io), 39 I/O/FI/MC4-7 (io), 40 I/O/FI/MC4-8 (io), 41 GND (power), 42 I/O/FI/MC4-9 (io), 43 I/FI (in), 44 I/O/FI/MC3-7 (io), 45 I/O/FI/MC3-8 (io), 46 I/FO/MC2-9 (io), 47 I/O/FI/MC3-9 (io), 48 I/FO/MC2-8 (io), 49 GND (power), 50 VCCIO (power), 51 I/FO/MC2-7 (io), 52 I/FO/MC2-6 (io), 53 I/O/MC4-2 (io), 54 I/O/MC4-3 (io), 55 I/FO/MC2-5 (io), 56 I/FO/MC2-4 (io), 57 I/FO/MC2-3 (io), 58 I/FO/MC2-2 (io), 59 VCCINT (power), 60 O/~{CKEN0}/MC3-3 (io), 61 O/~{CKEN1}/MC3-4 (io), 62 O/FOE0/MC3-5 (io), 63 VCCINT/VPP (power), 64 O/FOE1/MC3-6 (io), 65 I/FI (in), 66 I/FO/MC2-1 (io), 67 I/FI (in), 68 I/FI (in)